# Altium integrated library Xilinx PLD XC9500.IntLib: 114 symbols (part 4 of 7)
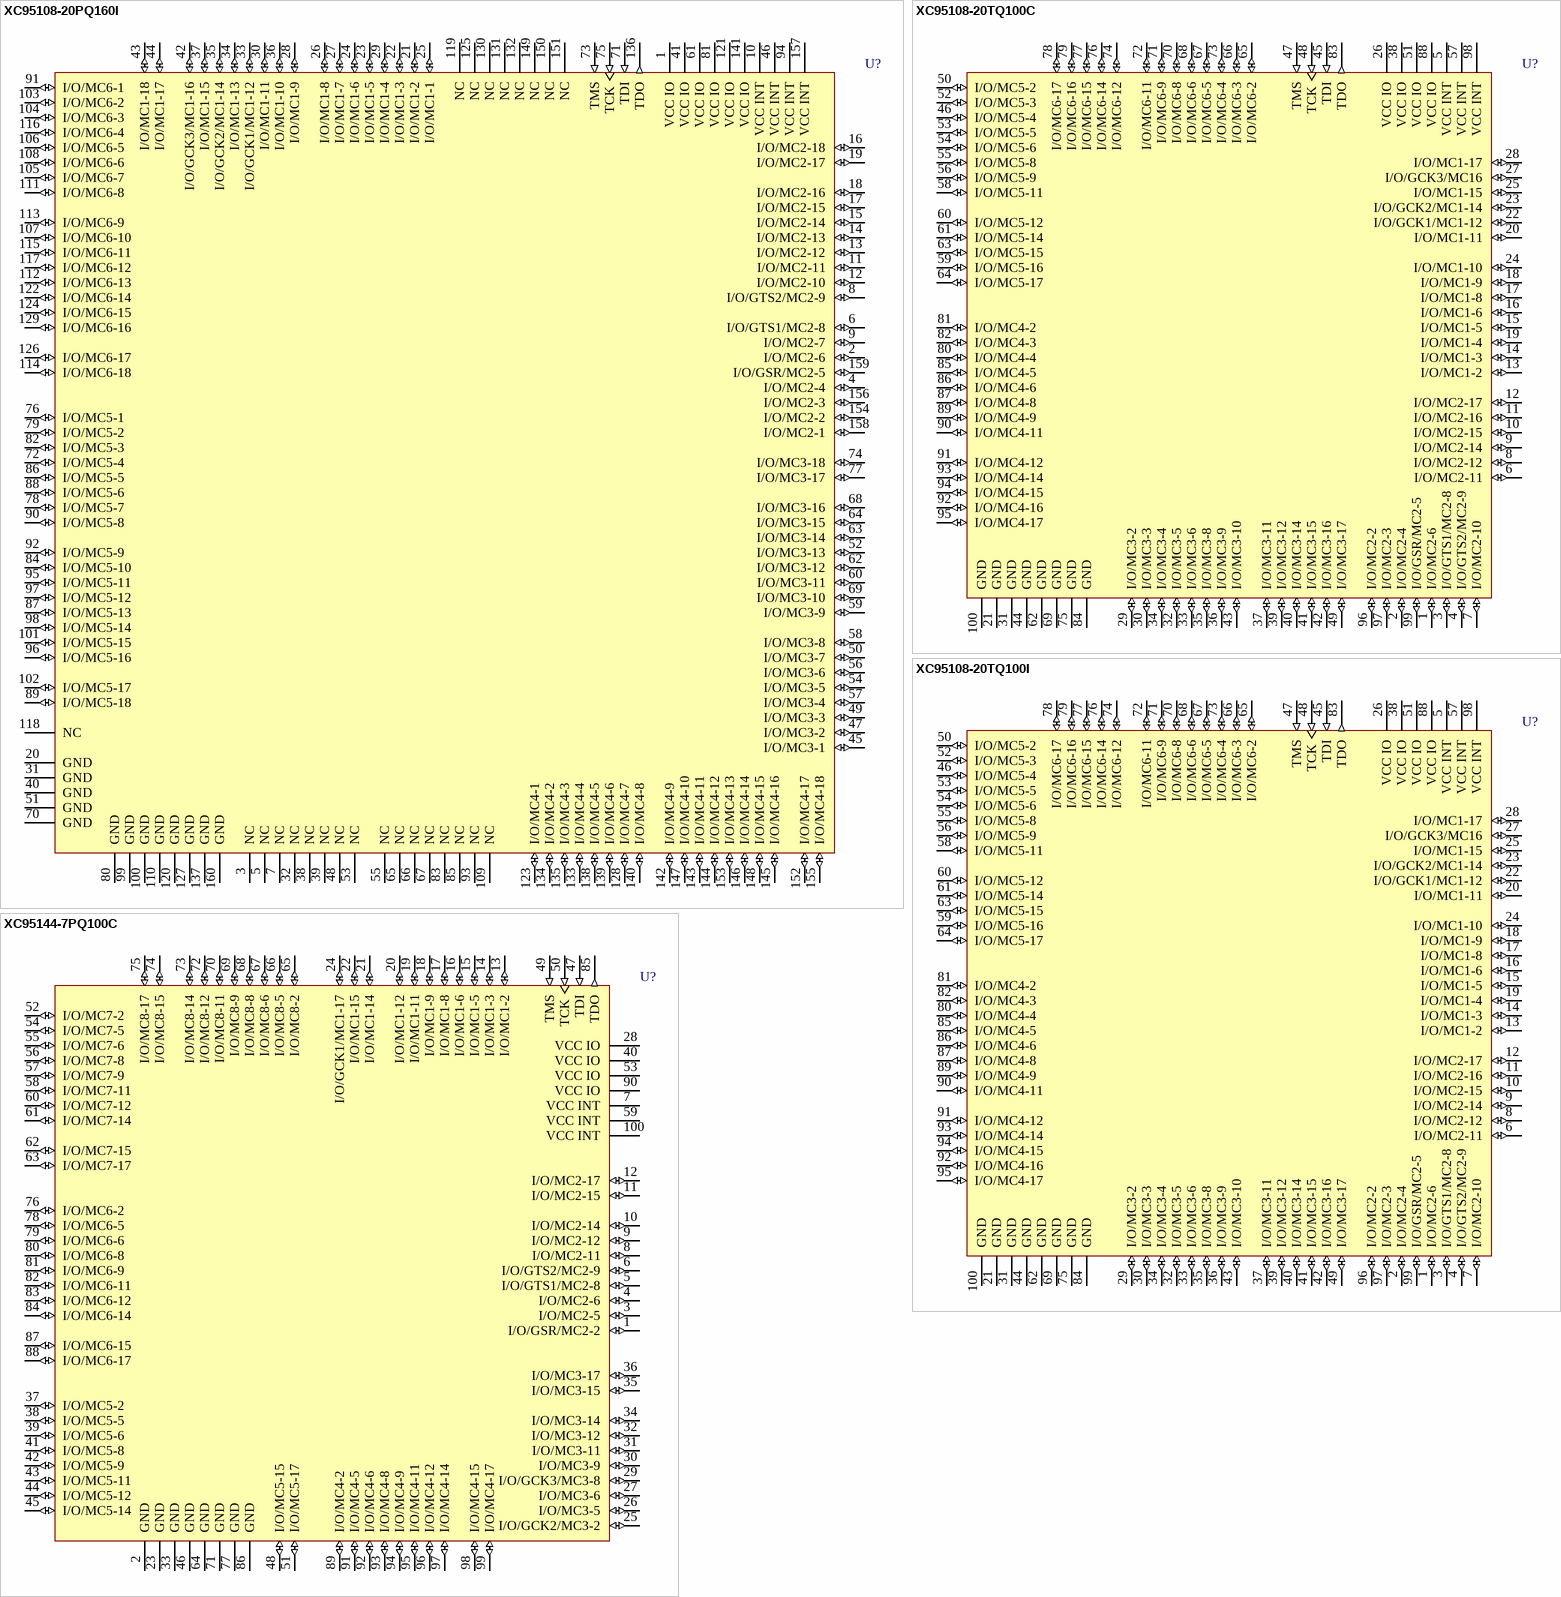
[diagram p53: symbols XC95108-20PQ160I to XC95144-7PQ100C]

## XC95108-20TQ100I
designator U?
XC9500, 5V CPLD with 108 Macrocells, 100-Pin TQFP, Industrial Grade; PackageDocument: ver1.1, Oct-2002; Published: 8-Jun-2000; LatestRevisionDate: 17-Jul-2002; LatestRevisionNote: Re-released for DXP Platform.; DatasheetDocument: ver4.3, Mar-2004; PackageReference: TQ100; Publisher: Altium Limited; Code_IPC: SQFP14X14-100
footprint TQ100 (100-Pin Thin Quad Flat Pack (TQ100))
3D model XC95108-TQ100 (100-Pin Thin Quad Flat Pack (TQ100))
signal-integrity model XC95108_TQ100 (XC9500)
pins: 1 I/O/MC2-6 (io), 2 I/O/MC2-4 (io), 3 I/O/GTS1/MC2-8 (io), 4 I/O/GTS2/MC2-9 (io), 5 VCC INT (power), 6 I/O/MC2-11 (io), 7 I/O/MC2-10 (io), 8 I/O/MC2-12 (io), 9 I/O/MC2-14 (io), 10 I/O/MC2-15 (io), 11 I/O/MC2-16 (io), 12 I/O/MC2-17 (io), 13 I/O/MC1-2 (io), 14 I/O/MC1-3 (io), 15 I/O/MC1-5 (io), 16 I/O/MC1-6 (io), 17 I/O/MC1-8 (io), 18 I/O/MC1-9 (io), 19 I/O/MC1-4 (io), 20 I/O/MC1-11 (io), 21 GND (power), 22 I/O/GCK1/MC1-12 (io), 23 I/O/GCK2/MC1-14 (io), 24 I/O/MC1-10 (io), 25 I/O/MC1-15 (io), 26 VCC IO (power), 27 I/O/GCK3/MC16 (io), 28 I/O/MC1-17 (io), 29 I/O/MC3-2 (io), 30 I/O/MC3-3 (io), 31 GND (power), 32 I/O/MC3-5 (io), 33 I/O/MC3-6 (io), 34 I/O/MC3-4 (io), 35 I/O/MC3-8 (io), 36 I/O/MC3-9 (io), 37 I/O/MC3-11 (io), 38 VCC IO (power), 39 I/O/MC3-12 (io), 40 I/O/MC3-14 (io), 41 I/O/MC3-15 (io), 42 I/O/MC3-16 (io), 43 I/O/MC3-10 (io), 44 GND (power), 45 TDI (in), 46 I/O/MC5-4 (io), 47 TMS (in), 48 TCK (in), 49 I/O/MC3-17 (io), 50 I/O/MC5-2 (io), 51 VCC IO (power), 52 I/O/MC5-3 (io), 53 I/O/MC5-5 (io), 54 I/O/MC5-6 (io), 55 I/O/MC5-8 (io), 56 I/O/MC5-9 (io), 57 VCC INT (power), 58 I/O/MC5-11 (io), 59 I/O/MC5-16 (io), 60 I/O/MC5-12 (io), 61 I/O/MC5-14 (io), 62 GND (power), 63 I/O/MC5-15 (io), 64 I/O/MC5-17 (io), 65 I/O/MC6-2 (io), 66 I/O/MC6-3 (io), 67 I/O/MC6-5 (io), 68 I/O/MC6-6 (io), 69 GND (power), 70 I/O/MC6-8 (io), 71 I/O/MC6-9 (io), 72 I/O/MC6-11 (io), 73 I/O/MC6-4 (io), 74 I/O/MC6-12 (io), 75 GND (power), 76 I/O/MC6-14 (io), 77 I/O/MC6-15 (io), 78 I/O/MC6-17 (io), 79 I/O/MC6-16 (io), 80 I/O/MC4-4 (io), 81 I/O/MC4-2 (io), 82 I/O/MC4-3 (io), 83 TDO (out), 84 GND (power), 85 I/O/MC4-5 (io), 86 I/O/MC4-6 (io), 87 I/O/MC4-8 (io), 88 VCC IO (power), 89 I/O/MC4-9 (io), 90 I/O/MC4-11 (io), 91 I/O/MC4-12 (io), 92 I/O/MC4-16 (io), 93 I/O/MC4-14 (io), 94 I/O/MC4-15 (io), 95 I/O/MC4-17 (io), 96 I/O/MC2-2 (io), 97 I/O/MC2-3 (io), 98 VCC INT (power), 99 I/O/GSR/MC2-5 (io), 100 GND (power)

## XC95144-7PQ100C
designator U?
XC9500, 5V CPLD with 144 Macrocells, 100-Pin PQFP, Commercial Grade; PackageDocument: ver1.2, Oct-2002; Published: 8-Jun-2000; LatestRevisionDate: 26-May-2004; LatestRevisionNote: SCH Symbol updated (GTS3 & GTS4 pin reference removed) to match Feb 2004 datasheet.; DatasheetDocument: ver5.3, Feb-2004; PackageReference: PQ100; Publisher: Altium Limited; Code_IPC: QFP-14X20-100
footprint PQ100 (100-Pin Plastic Quad Flat Pack (PQ100))
3D model XC95144-PQ100 (100-Pin Plastic Quad Flat Pack (PQ100))
signal-integrity model XC95144_PQ100 (XC9500)
pins: 1 I/O/GSR/MC2-2 (io), 2 GND (power), 3 I/O/MC2-5 (io), 4 I/O/MC2-6 (io), 5 I/O/GTS1/MC2-8 (io), 6 I/O/GTS2/MC2-9 (io), 7 VCC INT (power), 8 I/O/MC2-11 (io), 9 I/O/MC2-12 (io), 10 I/O/MC2-14 (io), 11 I/O/MC2-15 (io), 12 I/O/MC2-17 (io), 13 I/O/MC1-2 (io), 14 I/O/MC1-3 (io), 15 I/O/MC1-5 (io), 16 I/O/MC1-6 (io), 17 I/O/MC1-8 (io), 18 I/O/MC1-9 (io), 19 I/O/MC1-11 (io), 20 I/O/MC1-12 (io), 21 I/O/MC1-14 (io), 22 I/O/MC1-15 (io), 23 GND (power), 24 I/O/GCK1/MC1-17 (io), 25 I/O/GCK2/MC3-2 (io), 26 I/O/MC3-5 (io), 27 I/O/MC3-6 (io), 28 VCC IO (power), 29 I/O/GCK3/MC3-8 (io), 30 I/O/MC3-9 (io), 31 I/O/MC3-11 (io), 32 I/O/MC3-12 (io), 33 GND (power), 34 I/O/MC3-14 (io), 35 I/O/MC3-15 (io), 36 I/O/MC3-17 (io), 37 I/O/MC5-2 (io), 38 I/O/MC5-5 (io), 39 I/O/MC5-6 (io), 40 VCC IO (power), 41 I/O/MC5-8 (io), 42 I/O/MC5-9 (io), 43 I/O/MC5-11 (io), 44 I/O/MC5-12 (io), 45 I/O/MC5-14 (io), 46 GND (power), 47 TDI (in), 48 I/O/MC5-15 (io), 49 TMS (in), 50 TCK (in), 51 I/O/MC5-17 (io), 52 I/O/MC7-2 (io), 53 VCC IO (power), 54 I/O/MC7-5 (io), 55 I/O/MC7-6 (io), 56 I/O/MC7-8 (io), 57 I/O/MC7-9 (io), 58 I/O/MC7-11 (io), 59 VCC INT (power), 60 I/O/MC7-12 (io), 61 I/O/MC7-14 (io), 62 I/O/MC7-15 (io), 63 I/O/MC7-17 (io), 64 GND (power), 65 I/O/MC8-2 (io), 66 I/O/MC8-5 (io), 67 I/O/MC8-6 (io), 68 I/O/MC8-8 (io), 69 I/O/MC8-9 (io), 70 I/O/MC8-11 (io), 71 GND (power), 72 I/O/MC8-12 (io), 73 I/O/MC8-14 (io), 74 I/O/MC8-15 (io), 75 I/O/MC8-17 (io), 76 I/O/MC6-2 (io), 77 GND (power), 78 I/O/MC6-5 (io), 79 I/O/MC6-6 (io), 80 I/O/MC6-8 (io), 81 I/O/MC6-9 (io), 82 I/O/MC6-11 (io), 83 I/O/MC6-12 (io), 84 I/O/MC6-14 (io), 85 TDO (out), 86 GND (power), 87 I/O/MC6-15 (io), 88 I/O/MC6-17 (io), 89 I/O/MC4-2 (io), 90 VCC IO (power), 91 I/O/MC4-5 (io), 92 I/O/MC4-6 (io), 93 I/O/MC4-8 (io), 94 I/O/MC4-9 (io), 95 I/O/MC4-11 (io), 96 I/O/MC4-12 (io), 97 I/O/MC4-14 (io), 98 I/O/MC4-15 (io), 99 I/O/MC4-17 (io), 100 VCC INT (power)

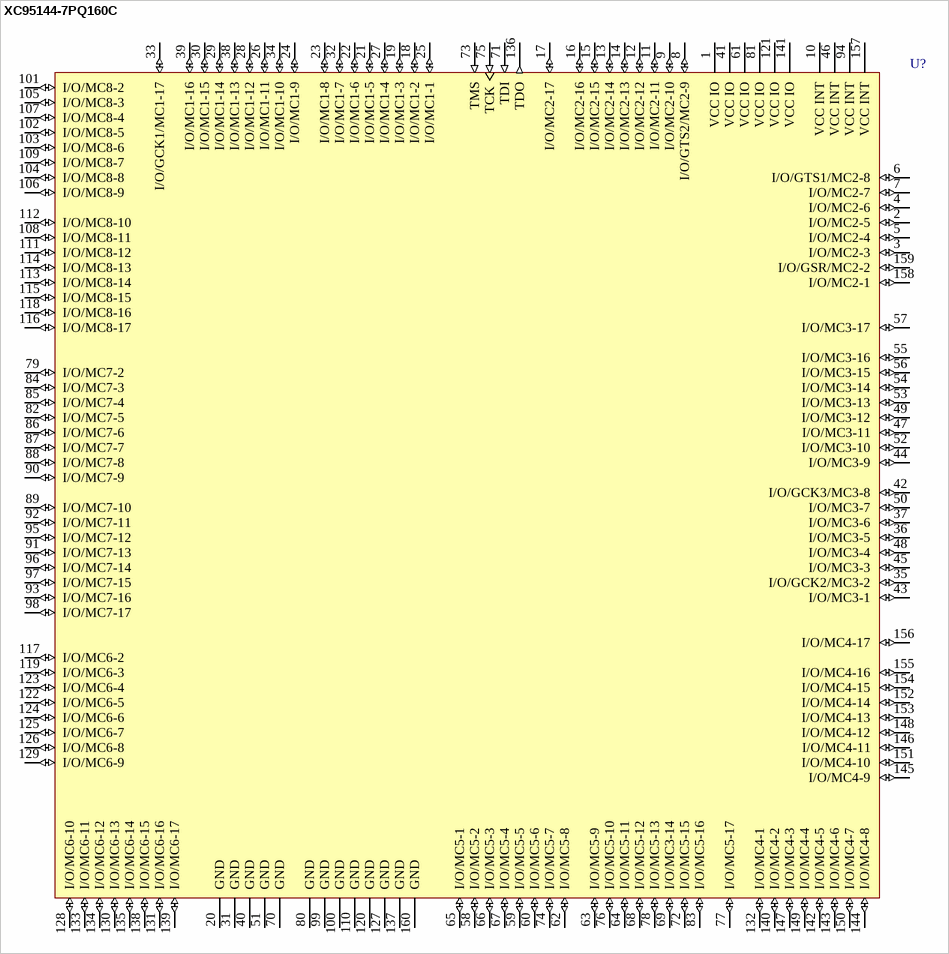
[diagram p15: symbol XC95144-7PQ160C]

## XC95144-7PQ160C
designator U?
XC9500, 5V CPLD with 144 Macrocells, 160-Pin PQFP, Commercial Grade; PackageDocument: ver1.1, Oct-2002; Published: 8-Jun-2000; LatestRevisionDate: 26-May-2004; LatestRevisionNote: SCH Symbol updated (GTS3 & GTS4 pin reference removed) to match Feb 2004 datasheet.; DatasheetDocument: ver5.3, Feb-2004; PackageReference: PQ160; Publisher: Altium Limited; Code_JEDEC: MS-022-DD1
footprint PQ160 (160-Pin Plastic Quad Flat Pack (PQ160))
3D model XC95144-PQ160 (160-Pin Plastic Quad Flat Pack (PQ160))
signal-integrity model XC95144_PQ160 (XC9500)
pins: 1 VCC IO (power), 2 I/O/MC2-5 (io), 3 I/O/MC2-3 (io), 4 I/O/MC2-6 (io), 5 I/O/MC2-4 (io), 6 I/O/GTS1/MC2-8 (io), 7 I/O/MC2-7 (io), 8 I/O/GTS2/MC2-9 (io), 9 I/O/MC2-10 (io), 10 VCC INT (power), 11 I/O/MC2-11 (io), 12 I/O/MC2-12 (io), 13 I/O/MC2-14 (io), 14 I/O/MC2-13 (io), 15 I/O/MC2-15 (io), 16 I/O/MC2-16 (io), 17 I/O/MC2-17 (io), 18 I/O/MC1-2 (io), 19 I/O/MC1-3 (io), 20 GND (power), 21 I/O/MC1-5 (io), 22 I/O/MC1-6 (io), 23 I/O/MC1-8 (io), 24 I/O/MC1-9 (io), 25 I/O/MC1-1 (io), 26 I/O/MC1-11 (io), 27 I/O/MC1-4 (io), 28 I/O/MC1-12 (io), 29 I/O/MC1-14 (io), 30 I/O/MC1-15 (io), 31 GND (power), 32 I/O/MC1-7 (io), 33 I/O/GCK1/MC1-17 (io), 34 I/O/MC1-10 (io), 35 I/O/GCK2/MC3-2 (io), 36 I/O/MC3-5 (io), 37 I/O/MC3-6 (io), 38 I/O/MC1-13 (io), 39 I/O/MC1-16 (io), 40 GND (power), 41 VCC IO (power), 42 I/O/GCK3/MC3-8 (io), 43 I/O/MC3-1 (io), 44 I/O/MC3-9 (io), 45 I/O/MC3-3 (io), 46 VCC INT (power), 47 I/O/MC3-11 (io), 48 I/O/MC3-4 (io), 49 I/O/MC3-12 (io), 50 I/O/MC3-7 (io), 51 GND (power), 52 I/O/MC3-10 (io), 53 I/O/MC3-13 (io), 54 I/O/MC3-14 (io), 55 I/O/MC3-16 (io), 56 I/O/MC3-15 (io), 57 I/O/MC3-17 (io), 58 I/O/MC5-2 (io), 59 I/O/MC5-5 (io), 60 I/O/MC5-6 (io), 61 VCC IO (power), 62 I/O/MC5-8 (io), 63 I/O/MC5-9 (io), 64 I/O/MC5-11 (io), 65 I/O/MC5-1 (io), 66 I/O/MC5-3 (io), 67 I/O/MC5-4 (io), 68 I/O/MC5-12 (io), 69 I/O/MC3-14 (io), 70 GND (power), 71 TDI (in), 72 I/O/MC5-15 (io), 73 TMS (in), 74 I/O/MC5-7 (io), 75 TCK (in), 76 I/O/MC5-10 (io), 77 I/O/MC5-17 (io), 78 I/O/MC5-13 (io), 79 I/O/MC7-2 (io), 80 GND (power), 81 VCC IO (power), 82 I/O/MC7-5 (io), 83 I/O/MC5-16 (io), 84 I/O/MC7-3 (io), 85 I/O/MC7-4 (io), 86 I/O/MC7-6 (io), 87 I/O/MC7-7 (io), 88 I/O/MC7-8 (io), 89 I/O/MC7-10 (io), 90 I/O/MC7-9 (io), 91 I/O/MC7-13 (io), 92 I/O/MC7-11 (io), 93 I/O/MC7-16 (io), 94 VCC INT (power), 95 I/O/MC7-12 (io), 96 I/O/MC7-14 (io), 97 I/O/MC7-15 (io), 98 I/O/MC7-17 (io), 99 GND (power), 100 GND (power), 101 I/O/MC8-2 (io), 102 I/O/MC8-5 (io), 103 I/O/MC8-6 (io), 104 I/O/MC8-8 (io), 105 I/O/MC8-3 (io), 106 I/O/MC8-9 (io), 107 I/O/MC8-4 (io), 108 I/O/MC8-11 (io), 109 I/O/MC8-7 (io), 110 GND (power), 111 I/O/MC8-12 (io), 112 I/O/MC8-10 (io), 113 I/O/MC8-14 (io), 114 I/O/MC8-13 (io), 115 I/O/MC8-15 (io), 116 I/O/MC8-17 (io), 117 I/O/MC6-2 (io), 118 I/O/MC8-16 (io), 119 I/O/MC6-3 (io), 120 GND (power), 121 VCC IO (power), 122 I/O/MC6-5 (io), 123 I/O/MC6-4 (io), 124 I/O/MC6-6 (io), 125 I/O/MC6-7 (io), 126 I/O/MC6-8 (io), 127 GND (power), 128 I/O/MC6-10 (io), 129 I/O/MC6-9 (io), 130 I/O/MC6-13 (io), 131 I/O/MC6-16 (io), 132 I/O/MC4-1 (io), 133 I/O/MC6-11 (io), 134 I/O/MC6-12 (io), 135 I/O/MC6-14 (io), 136 TDO (out), 137 GND (power), 138 I/O/MC6-15 (io), 139 I/O/MC6-17 (io), 140 I/O/MC4-2 (io), 141 VCC IO (power), 142 I/O/MC4-5 (io), 143 I/O/MC4-6 (io), 144 I/O/MC4-8 (io), 145 I/O/MC4-9 (io), 146 I/O/MC4-11 (io), 147 I/O/MC4-3 (io), 148 I/O/MC4-12 (io), 149 I/O/MC4-4 (io), 150 I/O/MC4-7 (io), 151 I/O/MC4-10 (io), 152 I/O/MC4-14 (io), 153 I/O/MC4-13 (io), 154 I/O/MC4-15 (io), 155 I/O/MC4-16 (io), 156 I/O/MC4-17 (io), 157 VCC INT (power), 158 I/O/MC2-1 (io), 159 I/O/GSR/MC2-2 (io), 160 GND (power)

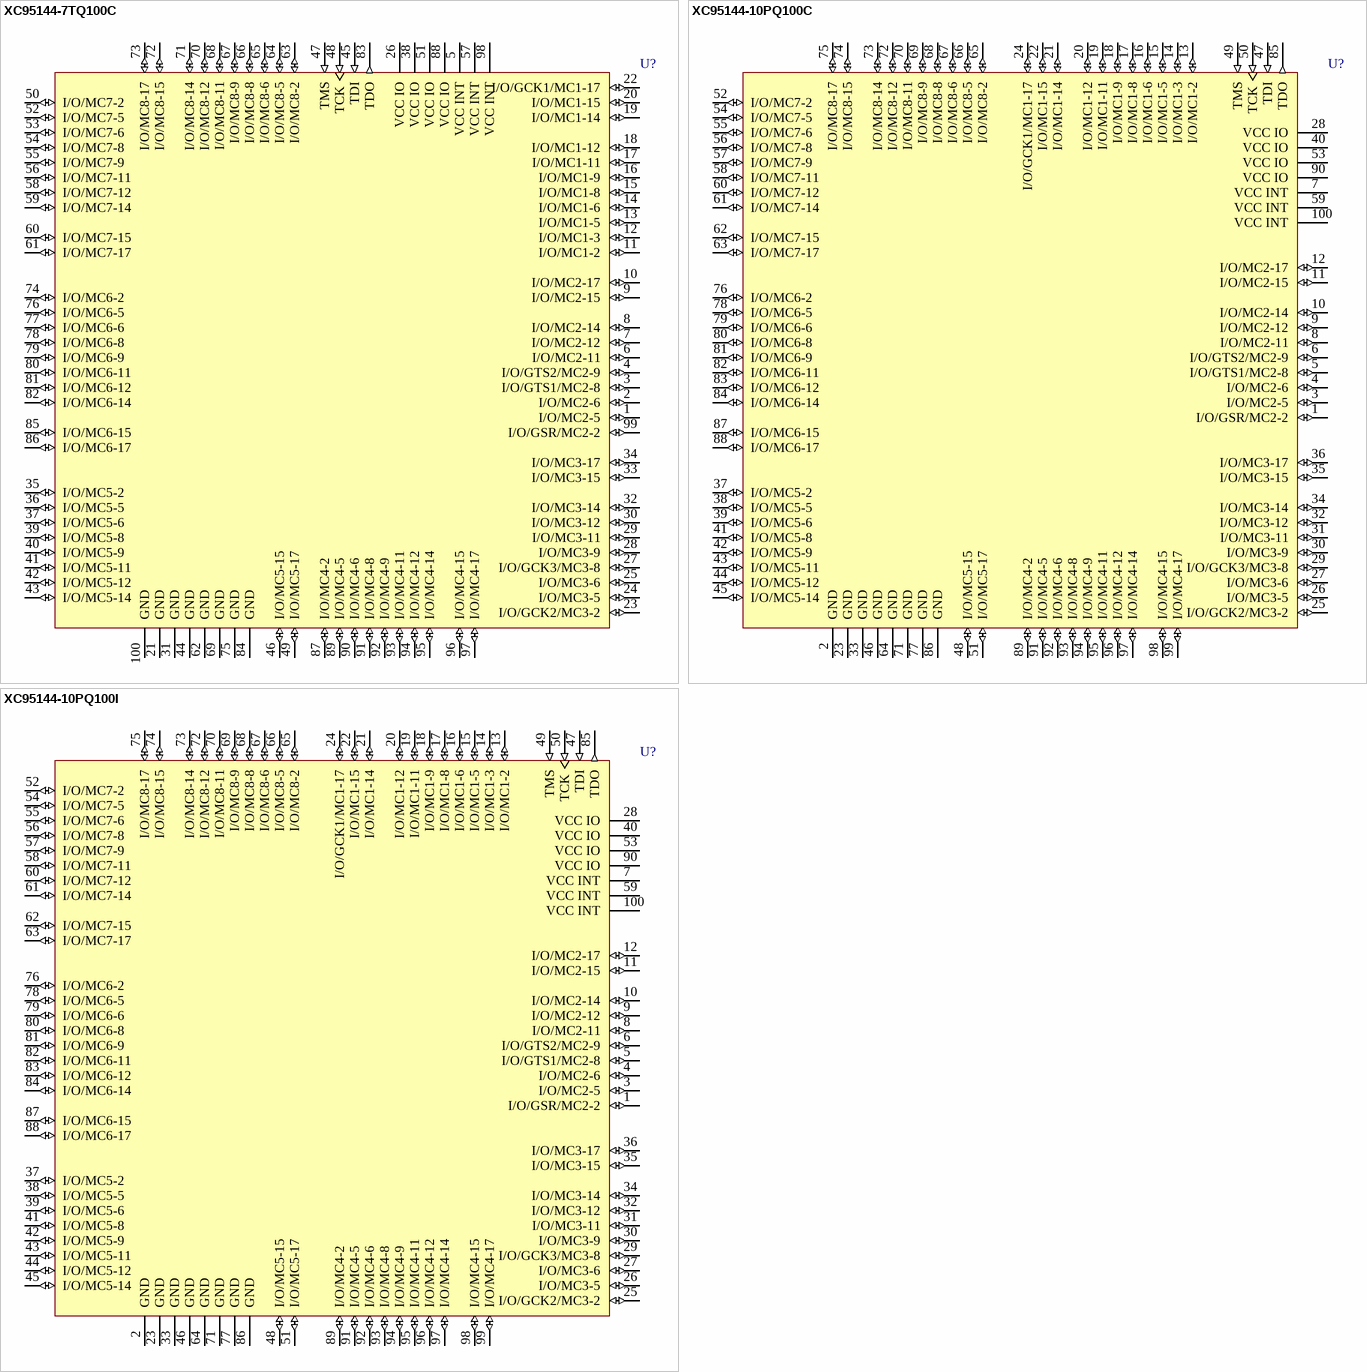
[diagram p16: symbols XC95144-7TQ100C to XC95144-10PQ100I]

## XC95144-7TQ100C
designator U?
XC9500, 5V CPLD with 144 Macrocells, 100-Pin TQFP, Commercial Grade; PackageDocument: ver1.1, Oct-2002; Published: 8-Jun-2000; LatestRevisionDate: 26-May-2004; LatestRevisionNote: SCH Symbol updated (GTS3 & GTS4 pin reference removed) to match Feb 2004 datasheet.; DatasheetDocument: ver5.3, Feb-2004; PackageReference: TQ100; Publisher: Altium Limited; Code_IPC: SQFP14X14-100
footprint TQ100 (100-Pin Thin Quad Flat Pack (TQ100))
3D model XC95144-TQ100 (100-Pin Thin Quad Flat Pack (TQ100))
signal-integrity model XC95144_TQ100 (XC9500)
pins: 1 I/O/MC2-5 (io), 2 I/O/MC2-6 (io), 3 I/O/GTS1/MC2-8 (io), 4 I/O/GTS2/MC2-9 (io), 5 VCC INT (power), 6 I/O/MC2-11 (io), 7 I/O/MC2-12 (io), 8 I/O/MC2-14 (io), 9 I/O/MC2-15 (io), 10 I/O/MC2-17 (io), 11 I/O/MC1-2 (io), 12 I/O/MC1-3 (io), 13 I/O/MC1-5 (io), 14 I/O/MC1-6 (io), 15 I/O/MC1-8 (io), 16 I/O/MC1-9 (io), 17 I/O/MC1-11 (io), 18 I/O/MC1-12 (io), 19 I/O/MC1-14 (io), 20 I/O/MC1-15 (io), 21 GND (power), 22 I/O/GCK1/MC1-17 (io), 23 I/O/GCK2/MC3-2 (io), 24 I/O/MC3-5 (io), 25 I/O/MC3-6 (io), 26 VCC IO (power), 27 I/O/GCK3/MC3-8 (io), 28 I/O/MC3-9 (io), 29 I/O/MC3-11 (io), 30 I/O/MC3-12 (io), 31 GND (power), 32 I/O/MC3-14 (io), 33 I/O/MC3-15 (io), 34 I/O/MC3-17 (io), 35 I/O/MC5-2 (io), 36 I/O/MC5-5 (io), 37 I/O/MC5-6 (io), 38 VCC IO (power), 39 I/O/MC5-8 (io), 40 I/O/MC5-9 (io), 41 I/O/MC5-11 (io), 42 I/O/MC5-12 (io), 43 I/O/MC5-14 (io), 44 GND (power), 45 TDI (in), 46 I/O/MC5-15 (io), 47 TMS (in), 48 TCK (in), 49 I/O/MC5-17 (io), 50 I/O/MC7-2 (io), 51 VCC IO (power), 52 I/O/MC7-5 (io), 53 I/O/MC7-6 (io), 54 I/O/MC7-8 (io), 55 I/O/MC7-9 (io), 56 I/O/MC7-11 (io), 57 VCC INT (power), 58 I/O/MC7-12 (io), 59 I/O/MC7-14 (io), 60 I/O/MC7-15 (io), 61 I/O/MC7-17 (io), 62 GND (power), 63 I/O/MC8-2 (io), 64 I/O/MC8-5 (io), 65 I/O/MC8-6 (io), 66 I/O/MC8-8 (io), 67 I/O/MC8-9 (io), 68 I/O/MC8-11 (io), 69 GND (power), 70 I/O/MC8-12 (io), 71 I/O/MC8-14 (io), 72 I/O/MC8-15 (io), 73 I/O/MC8-17 (io), 74 I/O/MC6-2 (io), 75 GND (power), 76 I/O/MC6-5 (io), 77 I/O/MC6-6 (io), 78 I/O/MC6-8 (io), 79 I/O/MC6-9 (io), 80 I/O/MC6-11 (io), 81 I/O/MC6-12 (io), 82 I/O/MC6-14 (io), 83 TDO (out), 84 GND (power), 85 I/O/MC6-15 (io), 86 I/O/MC6-17 (io), 87 I/O/MC4-2 (io), 88 VCC IO (power), 89 I/O/MC4-5 (io), 90 I/O/MC4-6 (io), 91 I/O/MC4-8 (io), 92 I/O/MC4-9 (io), 93 I/O/MC4-11 (io), 94 I/O/MC4-12 (io), 95 I/O/MC4-14 (io), 96 I/O/MC4-15 (io), 97 I/O/MC4-17 (io), 98 VCC INT (power), 99 I/O/GSR/MC2-2 (io), 100 GND (power)

## XC95144-10PQ100C
designator U?
XC9500, 5V CPLD with 144 Macrocells, 100-Pin PQFP, Commercial Grade; PackageDocument: ver1.2, Oct-2002; Published: 8-Jun-2000; LatestRevisionDate: 26-May-2004; LatestRevisionNote: SCH Symbol updated (GTS3 & GTS4 pin reference removed) to match Feb 2004 datasheet.; DatasheetDocument: ver5.3, Feb-2004; PackageReference: PQ100; Publisher: Altium Limited; Code_IPC: QFP-14X20-100
footprint PQ100 (100-Pin Plastic Quad Flat Pack (PQ100))
3D model XC95144-PQ100 (100-Pin Plastic Quad Flat Pack (PQ100))
signal-integrity model XC95144_PQ100 (XC9500)
pins: 1 I/O/GSR/MC2-2 (io), 2 GND (power), 3 I/O/MC2-5 (io), 4 I/O/MC2-6 (io), 5 I/O/GTS1/MC2-8 (io), 6 I/O/GTS2/MC2-9 (io), 7 VCC INT (power), 8 I/O/MC2-11 (io), 9 I/O/MC2-12 (io), 10 I/O/MC2-14 (io), 11 I/O/MC2-15 (io), 12 I/O/MC2-17 (io), 13 I/O/MC1-2 (io), 14 I/O/MC1-3 (io), 15 I/O/MC1-5 (io), 16 I/O/MC1-6 (io), 17 I/O/MC1-8 (io), 18 I/O/MC1-9 (io), 19 I/O/MC1-11 (io), 20 I/O/MC1-12 (io), 21 I/O/MC1-14 (io), 22 I/O/MC1-15 (io), 23 GND (power), 24 I/O/GCK1/MC1-17 (io), 25 I/O/GCK2/MC3-2 (io), 26 I/O/MC3-5 (io), 27 I/O/MC3-6 (io), 28 VCC IO (power), 29 I/O/GCK3/MC3-8 (io), 30 I/O/MC3-9 (io), 31 I/O/MC3-11 (io), 32 I/O/MC3-12 (io), 33 GND (power), 34 I/O/MC3-14 (io), 35 I/O/MC3-15 (io), 36 I/O/MC3-17 (io), 37 I/O/MC5-2 (io), 38 I/O/MC5-5 (io), 39 I/O/MC5-6 (io), 40 VCC IO (power), 41 I/O/MC5-8 (io), 42 I/O/MC5-9 (io), 43 I/O/MC5-11 (io), 44 I/O/MC5-12 (io), 45 I/O/MC5-14 (io), 46 GND (power), 47 TDI (in), 48 I/O/MC5-15 (io), 49 TMS (in), 50 TCK (in), 51 I/O/MC5-17 (io), 52 I/O/MC7-2 (io), 53 VCC IO (power), 54 I/O/MC7-5 (io), 55 I/O/MC7-6 (io), 56 I/O/MC7-8 (io), 57 I/O/MC7-9 (io), 58 I/O/MC7-11 (io), 59 VCC INT (power), 60 I/O/MC7-12 (io), 61 I/O/MC7-14 (io), 62 I/O/MC7-15 (io), 63 I/O/MC7-17 (io), 64 GND (power), 65 I/O/MC8-2 (io), 66 I/O/MC8-5 (io), 67 I/O/MC8-6 (io), 68 I/O/MC8-8 (io), 69 I/O/MC8-9 (io), 70 I/O/MC8-11 (io), 71 GND (power), 72 I/O/MC8-12 (io), 73 I/O/MC8-14 (io), 74 I/O/MC8-15 (io), 75 I/O/MC8-17 (io), 76 I/O/MC6-2 (io), 77 GND (power), 78 I/O/MC6-5 (io), 79 I/O/MC6-6 (io), 80 I/O/MC6-8 (io), 81 I/O/MC6-9 (io), 82 I/O/MC6-11 (io), 83 I/O/MC6-12 (io), 84 I/O/MC6-14 (io), 85 TDO (out), 86 GND (power), 87 I/O/MC6-15 (io), 88 I/O/MC6-17 (io), 89 I/O/MC4-2 (io), 90 VCC IO (power), 91 I/O/MC4-5 (io), 92 I/O/MC4-6 (io), 93 I/O/MC4-8 (io), 94 I/O/MC4-9 (io), 95 I/O/MC4-11 (io), 96 I/O/MC4-12 (io), 97 I/O/MC4-14 (io), 98 I/O/MC4-15 (io), 99 I/O/MC4-17 (io), 100 VCC INT (power)

## XC95144-10PQ100I
designator U?
XC9500, 5V CPLD with 144 Macrocells, 100-Pin PQFP, Industrial Grade; PackageDocument: ver1.2, Oct-2002; Published: 8-Jun-2000; LatestRevisionDate: 26-May-2004; LatestRevisionNote: SCH Symbol updated (GTS3 & GTS4 pin reference removed) to match Feb 2004 datasheet.; DatasheetDocument: ver5.3, Feb-2004; PackageReference: PQ100; Publisher: Altium Limited; Code_IPC: QFP-14X20-100
footprint PQ100 (100-Pin Plastic Quad Flat Pack (PQ100))
3D model XC95144-PQ100 (100-Pin Plastic Quad Flat Pack (PQ100))
signal-integrity model XC95144_PQ100 (XC9500)
pins: 1 I/O/GSR/MC2-2 (io), 2 GND (power), 3 I/O/MC2-5 (io), 4 I/O/MC2-6 (io), 5 I/O/GTS1/MC2-8 (io), 6 I/O/GTS2/MC2-9 (io), 7 VCC INT (power), 8 I/O/MC2-11 (io), 9 I/O/MC2-12 (io), 10 I/O/MC2-14 (io), 11 I/O/MC2-15 (io), 12 I/O/MC2-17 (io), 13 I/O/MC1-2 (io), 14 I/O/MC1-3 (io), 15 I/O/MC1-5 (io), 16 I/O/MC1-6 (io), 17 I/O/MC1-8 (io), 18 I/O/MC1-9 (io), 19 I/O/MC1-11 (io), 20 I/O/MC1-12 (io), 21 I/O/MC1-14 (io), 22 I/O/MC1-15 (io), 23 GND (power), 24 I/O/GCK1/MC1-17 (io), 25 I/O/GCK2/MC3-2 (io), 26 I/O/MC3-5 (io), 27 I/O/MC3-6 (io), 28 VCC IO (power), 29 I/O/GCK3/MC3-8 (io), 30 I/O/MC3-9 (io), 31 I/O/MC3-11 (io), 32 I/O/MC3-12 (io), 33 GND (power), 34 I/O/MC3-14 (io), 35 I/O/MC3-15 (io), 36 I/O/MC3-17 (io), 37 I/O/MC5-2 (io), 38 I/O/MC5-5 (io), 39 I/O/MC5-6 (io), 40 VCC IO (power), 41 I/O/MC5-8 (io), 42 I/O/MC5-9 (io), 43 I/O/MC5-11 (io), 44 I/O/MC5-12 (io), 45 I/O/MC5-14 (io), 46 GND (power), 47 TDI (in), 48 I/O/MC5-15 (io), 49 TMS (in), 50 TCK (in), 51 I/O/MC5-17 (io), 52 I/O/MC7-2 (io), 53 VCC IO (power), 54 I/O/MC7-5 (io), 55 I/O/MC7-6 (io), 56 I/O/MC7-8 (io), 57 I/O/MC7-9 (io), 58 I/O/MC7-11 (io), 59 VCC INT (power), 60 I/O/MC7-12 (io), 61 I/O/MC7-14 (io), 62 I/O/MC7-15 (io), 63 I/O/MC7-17 (io), 64 GND (power), 65 I/O/MC8-2 (io), 66 I/O/MC8-5 (io), 67 I/O/MC8-6 (io), 68 I/O/MC8-8 (io), 69 I/O/MC8-9 (io), 70 I/O/MC8-11 (io), 71 GND (power), 72 I/O/MC8-12 (io), 73 I/O/MC8-14 (io), 74 I/O/MC8-15 (io), 75 I/O/MC8-17 (io), 76 I/O/MC6-2 (io), 77 GND (power), 78 I/O/MC6-5 (io), 79 I/O/MC6-6 (io), 80 I/O/MC6-8 (io), 81 I/O/MC6-9 (io), 82 I/O/MC6-11 (io), 83 I/O/MC6-12 (io), 84 I/O/MC6-14 (io), 85 TDO (out), 86 GND (power), 87 I/O/MC6-15 (io), 88 I/O/MC6-17 (io), 89 I/O/MC4-2 (io), 90 VCC IO (power), 91 I/O/MC4-5 (io), 92 I/O/MC4-6 (io), 93 I/O/MC4-8 (io), 94 I/O/MC4-9 (io), 95 I/O/MC4-11 (io), 96 I/O/MC4-12 (io), 97 I/O/MC4-14 (io), 98 I/O/MC4-15 (io), 99 I/O/MC4-17 (io), 100 VCC INT (power)

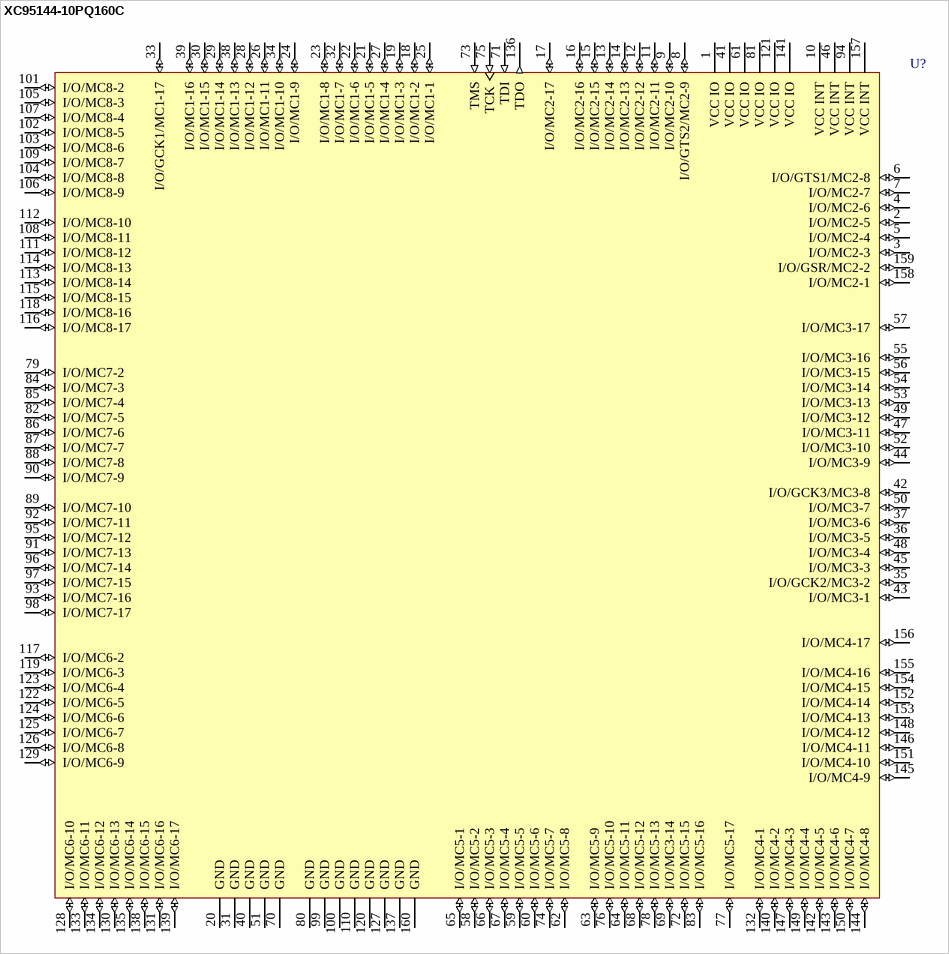
[diagram p17: symbol XC95144-10PQ160C]

## XC95144-10PQ160C
designator U?
XC9500, 5V CPLD with 144 Macrocells, 160-Pin PQFP, Commercial Grade; PackageDocument: ver1.1, Oct-2002; Published: 8-Jun-2000; LatestRevisionDate: 26-May-2004; LatestRevisionNote: SCH Symbol updated (GTS3 & GTS4 pin reference removed) to match Feb 2004 datasheet.; DatasheetDocument: ver5.3, Feb-2004; PackageReference: PQ160; Publisher: Altium Limited; Code_JEDEC: MS-022-DD1
footprint PQ160 (160-Pin Plastic Quad Flat Pack (PQ160))
3D model XC95144-PQ160 (160-Pin Plastic Quad Flat Pack (PQ160))
signal-integrity model XC95144_PQ160 (XC9500)
pins: 1 VCC IO (power), 2 I/O/MC2-5 (io), 3 I/O/MC2-3 (io), 4 I/O/MC2-6 (io), 5 I/O/MC2-4 (io), 6 I/O/GTS1/MC2-8 (io), 7 I/O/MC2-7 (io), 8 I/O/GTS2/MC2-9 (io), 9 I/O/MC2-10 (io), 10 VCC INT (power), 11 I/O/MC2-11 (io), 12 I/O/MC2-12 (io), 13 I/O/MC2-14 (io), 14 I/O/MC2-13 (io), 15 I/O/MC2-15 (io), 16 I/O/MC2-16 (io), 17 I/O/MC2-17 (io), 18 I/O/MC1-2 (io), 19 I/O/MC1-3 (io), 20 GND (power), 21 I/O/MC1-5 (io), 22 I/O/MC1-6 (io), 23 I/O/MC1-8 (io), 24 I/O/MC1-9 (io), 25 I/O/MC1-1 (io), 26 I/O/MC1-11 (io), 27 I/O/MC1-4 (io), 28 I/O/MC1-12 (io), 29 I/O/MC1-14 (io), 30 I/O/MC1-15 (io), 31 GND (power), 32 I/O/MC1-7 (io), 33 I/O/GCK1/MC1-17 (io), 34 I/O/MC1-10 (io), 35 I/O/GCK2/MC3-2 (io), 36 I/O/MC3-5 (io), 37 I/O/MC3-6 (io), 38 I/O/MC1-13 (io), 39 I/O/MC1-16 (io), 40 GND (power), 41 VCC IO (power), 42 I/O/GCK3/MC3-8 (io), 43 I/O/MC3-1 (io), 44 I/O/MC3-9 (io), 45 I/O/MC3-3 (io), 46 VCC INT (power), 47 I/O/MC3-11 (io), 48 I/O/MC3-4 (io), 49 I/O/MC3-12 (io), 50 I/O/MC3-7 (io), 51 GND (power), 52 I/O/MC3-10 (io), 53 I/O/MC3-13 (io), 54 I/O/MC3-14 (io), 55 I/O/MC3-16 (io), 56 I/O/MC3-15 (io), 57 I/O/MC3-17 (io), 58 I/O/MC5-2 (io), 59 I/O/MC5-5 (io), 60 I/O/MC5-6 (io), 61 VCC IO (power), 62 I/O/MC5-8 (io), 63 I/O/MC5-9 (io), 64 I/O/MC5-11 (io), 65 I/O/MC5-1 (io), 66 I/O/MC5-3 (io), 67 I/O/MC5-4 (io), 68 I/O/MC5-12 (io), 69 I/O/MC3-14 (io), 70 GND (power), 71 TDI (in), 72 I/O/MC5-15 (io), 73 TMS (in), 74 I/O/MC5-7 (io), 75 TCK (in), 76 I/O/MC5-10 (io), 77 I/O/MC5-17 (io), 78 I/O/MC5-13 (io), 79 I/O/MC7-2 (io), 80 GND (power), 81 VCC IO (power), 82 I/O/MC7-5 (io), 83 I/O/MC5-16 (io), 84 I/O/MC7-3 (io), 85 I/O/MC7-4 (io), 86 I/O/MC7-6 (io), 87 I/O/MC7-7 (io), 88 I/O/MC7-8 (io), 89 I/O/MC7-10 (io), 90 I/O/MC7-9 (io), 91 I/O/MC7-13 (io), 92 I/O/MC7-11 (io), 93 I/O/MC7-16 (io), 94 VCC INT (power), 95 I/O/MC7-12 (io), 96 I/O/MC7-14 (io), 97 I/O/MC7-15 (io), 98 I/O/MC7-17 (io), 99 GND (power), 100 GND (power), 101 I/O/MC8-2 (io), 102 I/O/MC8-5 (io), 103 I/O/MC8-6 (io), 104 I/O/MC8-8 (io), 105 I/O/MC8-3 (io), 106 I/O/MC8-9 (io), 107 I/O/MC8-4 (io), 108 I/O/MC8-11 (io), 109 I/O/MC8-7 (io), 110 GND (power), 111 I/O/MC8-12 (io), 112 I/O/MC8-10 (io), 113 I/O/MC8-14 (io), 114 I/O/MC8-13 (io), 115 I/O/MC8-15 (io), 116 I/O/MC8-17 (io), 117 I/O/MC6-2 (io), 118 I/O/MC8-16 (io), 119 I/O/MC6-3 (io), 120 GND (power), 121 VCC IO (power), 122 I/O/MC6-5 (io), 123 I/O/MC6-4 (io), 124 I/O/MC6-6 (io), 125 I/O/MC6-7 (io), 126 I/O/MC6-8 (io), 127 GND (power), 128 I/O/MC6-10 (io), 129 I/O/MC6-9 (io), 130 I/O/MC6-13 (io), 131 I/O/MC6-16 (io), 132 I/O/MC4-1 (io), 133 I/O/MC6-11 (io), 134 I/O/MC6-12 (io), 135 I/O/MC6-14 (io), 136 TDO (out), 137 GND (power), 138 I/O/MC6-15 (io), 139 I/O/MC6-17 (io), 140 I/O/MC4-2 (io), 141 VCC IO (power), 142 I/O/MC4-5 (io), 143 I/O/MC4-6 (io), 144 I/O/MC4-8 (io), 145 I/O/MC4-9 (io), 146 I/O/MC4-11 (io), 147 I/O/MC4-3 (io), 148 I/O/MC4-12 (io), 149 I/O/MC4-4 (io), 150 I/O/MC4-7 (io), 151 I/O/MC4-10 (io), 152 I/O/MC4-14 (io), 153 I/O/MC4-13 (io), 154 I/O/MC4-15 (io), 155 I/O/MC4-16 (io), 156 I/O/MC4-17 (io), 157 VCC INT (power), 158 I/O/MC2-1 (io), 159 I/O/GSR/MC2-2 (io), 160 GND (power)

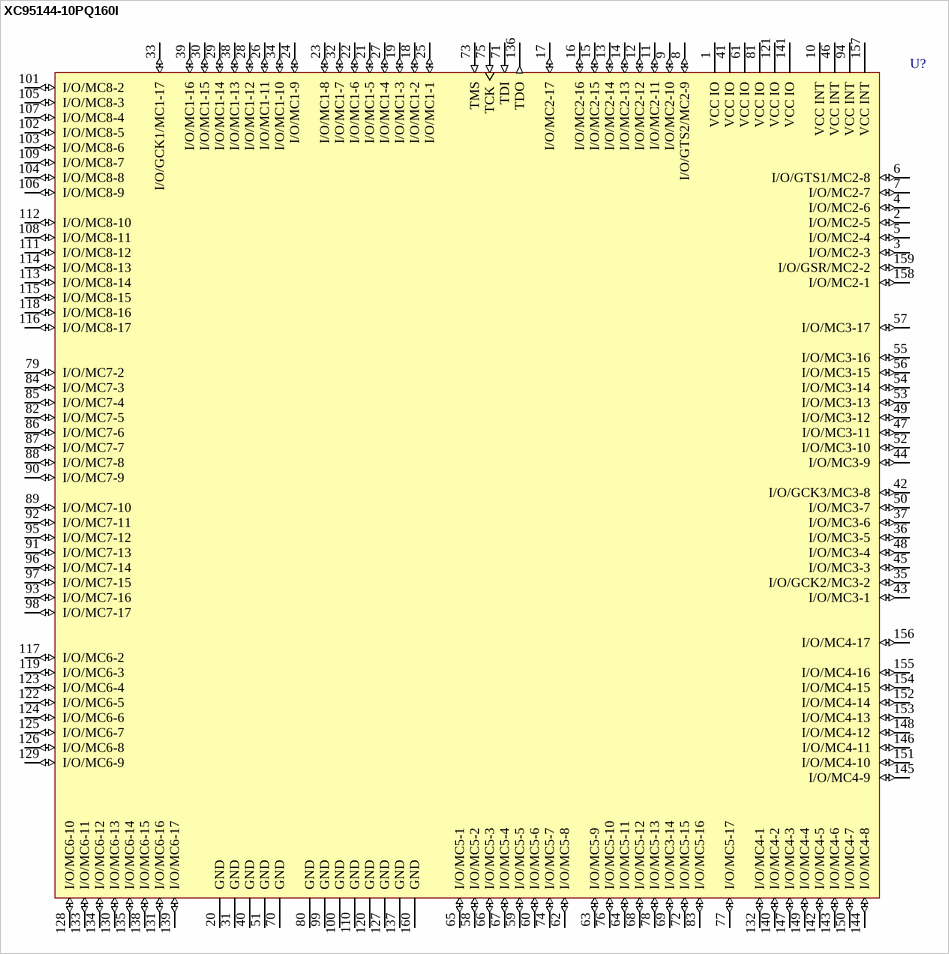
[diagram p18: symbol XC95144-10PQ160I]

## XC95144-10PQ160I
designator U?
XC9500, 5V CPLD with 144 Macrocells, 160-Pin PQFP, Industrial Grade; PackageDocument: ver1.1, Oct-2002; Published: 8-Jun-2000; LatestRevisionDate: 26-May-2004; LatestRevisionNote: SCH Symbol updated (GTS3 & GTS4 pin reference removed) to match Feb 2004 datasheet.; DatasheetDocument: ver5.3, Feb-2004; PackageReference: PQ160; Publisher: Altium Limited; Code_JEDEC: MS-022-DD1
footprint PQ160 (160-Pin Plastic Quad Flat Pack (PQ160))
3D model XC95144-PQ160 (160-Pin Plastic Quad Flat Pack (PQ160))
signal-integrity model XC95144_PQ160 (XC9500)
pins: 1 VCC IO (power), 2 I/O/MC2-5 (io), 3 I/O/MC2-3 (io), 4 I/O/MC2-6 (io), 5 I/O/MC2-4 (io), 6 I/O/GTS1/MC2-8 (io), 7 I/O/MC2-7 (io), 8 I/O/GTS2/MC2-9 (io), 9 I/O/MC2-10 (io), 10 VCC INT (power), 11 I/O/MC2-11 (io), 12 I/O/MC2-12 (io), 13 I/O/MC2-14 (io), 14 I/O/MC2-13 (io), 15 I/O/MC2-15 (io), 16 I/O/MC2-16 (io), 17 I/O/MC2-17 (io), 18 I/O/MC1-2 (io), 19 I/O/MC1-3 (io), 20 GND (power), 21 I/O/MC1-5 (io), 22 I/O/MC1-6 (io), 23 I/O/MC1-8 (io), 24 I/O/MC1-9 (io), 25 I/O/MC1-1 (io), 26 I/O/MC1-11 (io), 27 I/O/MC1-4 (io), 28 I/O/MC1-12 (io), 29 I/O/MC1-14 (io), 30 I/O/MC1-15 (io), 31 GND (power), 32 I/O/MC1-7 (io), 33 I/O/GCK1/MC1-17 (io), 34 I/O/MC1-10 (io), 35 I/O/GCK2/MC3-2 (io), 36 I/O/MC3-5 (io), 37 I/O/MC3-6 (io), 38 I/O/MC1-13 (io), 39 I/O/MC1-16 (io), 40 GND (power), 41 VCC IO (power), 42 I/O/GCK3/MC3-8 (io), 43 I/O/MC3-1 (io), 44 I/O/MC3-9 (io), 45 I/O/MC3-3 (io), 46 VCC INT (power), 47 I/O/MC3-11 (io), 48 I/O/MC3-4 (io), 49 I/O/MC3-12 (io), 50 I/O/MC3-7 (io), 51 GND (power), 52 I/O/MC3-10 (io), 53 I/O/MC3-13 (io), 54 I/O/MC3-14 (io), 55 I/O/MC3-16 (io), 56 I/O/MC3-15 (io), 57 I/O/MC3-17 (io), 58 I/O/MC5-2 (io), 59 I/O/MC5-5 (io), 60 I/O/MC5-6 (io), 61 VCC IO (power), 62 I/O/MC5-8 (io), 63 I/O/MC5-9 (io), 64 I/O/MC5-11 (io), 65 I/O/MC5-1 (io), 66 I/O/MC5-3 (io), 67 I/O/MC5-4 (io), 68 I/O/MC5-12 (io), 69 I/O/MC3-14 (io), 70 GND (power), 71 TDI (in), 72 I/O/MC5-15 (io), 73 TMS (in), 74 I/O/MC5-7 (io), 75 TCK (in), 76 I/O/MC5-10 (io), 77 I/O/MC5-17 (io), 78 I/O/MC5-13 (io), 79 I/O/MC7-2 (io), 80 GND (power), 81 VCC IO (power), 82 I/O/MC7-5 (io), 83 I/O/MC5-16 (io), 84 I/O/MC7-3 (io), 85 I/O/MC7-4 (io), 86 I/O/MC7-6 (io), 87 I/O/MC7-7 (io), 88 I/O/MC7-8 (io), 89 I/O/MC7-10 (io), 90 I/O/MC7-9 (io), 91 I/O/MC7-13 (io), 92 I/O/MC7-11 (io), 93 I/O/MC7-16 (io), 94 VCC INT (power), 95 I/O/MC7-12 (io), 96 I/O/MC7-14 (io), 97 I/O/MC7-15 (io), 98 I/O/MC7-17 (io), 99 GND (power), 100 GND (power), 101 I/O/MC8-2 (io), 102 I/O/MC8-5 (io), 103 I/O/MC8-6 (io), 104 I/O/MC8-8 (io), 105 I/O/MC8-3 (io), 106 I/O/MC8-9 (io), 107 I/O/MC8-4 (io), 108 I/O/MC8-11 (io), 109 I/O/MC8-7 (io), 110 GND (power), 111 I/O/MC8-12 (io), 112 I/O/MC8-10 (io), 113 I/O/MC8-14 (io), 114 I/O/MC8-13 (io), 115 I/O/MC8-15 (io), 116 I/O/MC8-17 (io), 117 I/O/MC6-2 (io), 118 I/O/MC8-16 (io), 119 I/O/MC6-3 (io), 120 GND (power), 121 VCC IO (power), 122 I/O/MC6-5 (io), 123 I/O/MC6-4 (io), 124 I/O/MC6-6 (io), 125 I/O/MC6-7 (io), 126 I/O/MC6-8 (io), 127 GND (power), 128 I/O/MC6-10 (io), 129 I/O/MC6-9 (io), 130 I/O/MC6-13 (io), 131 I/O/MC6-16 (io), 132 I/O/MC4-1 (io), 133 I/O/MC6-11 (io), 134 I/O/MC6-12 (io), 135 I/O/MC6-14 (io), 136 TDO (out), 137 GND (power), 138 I/O/MC6-15 (io), 139 I/O/MC6-17 (io), 140 I/O/MC4-2 (io), 141 VCC IO (power), 142 I/O/MC4-5 (io), 143 I/O/MC4-6 (io), 144 I/O/MC4-8 (io), 145 I/O/MC4-9 (io), 146 I/O/MC4-11 (io), 147 I/O/MC4-3 (io), 148 I/O/MC4-12 (io), 149 I/O/MC4-4 (io), 150 I/O/MC4-7 (io), 151 I/O/MC4-10 (io), 152 I/O/MC4-14 (io), 153 I/O/MC4-13 (io), 154 I/O/MC4-15 (io), 155 I/O/MC4-16 (io), 156 I/O/MC4-17 (io), 157 VCC INT (power), 158 I/O/MC2-1 (io), 159 I/O/GSR/MC2-2 (io), 160 GND (power)

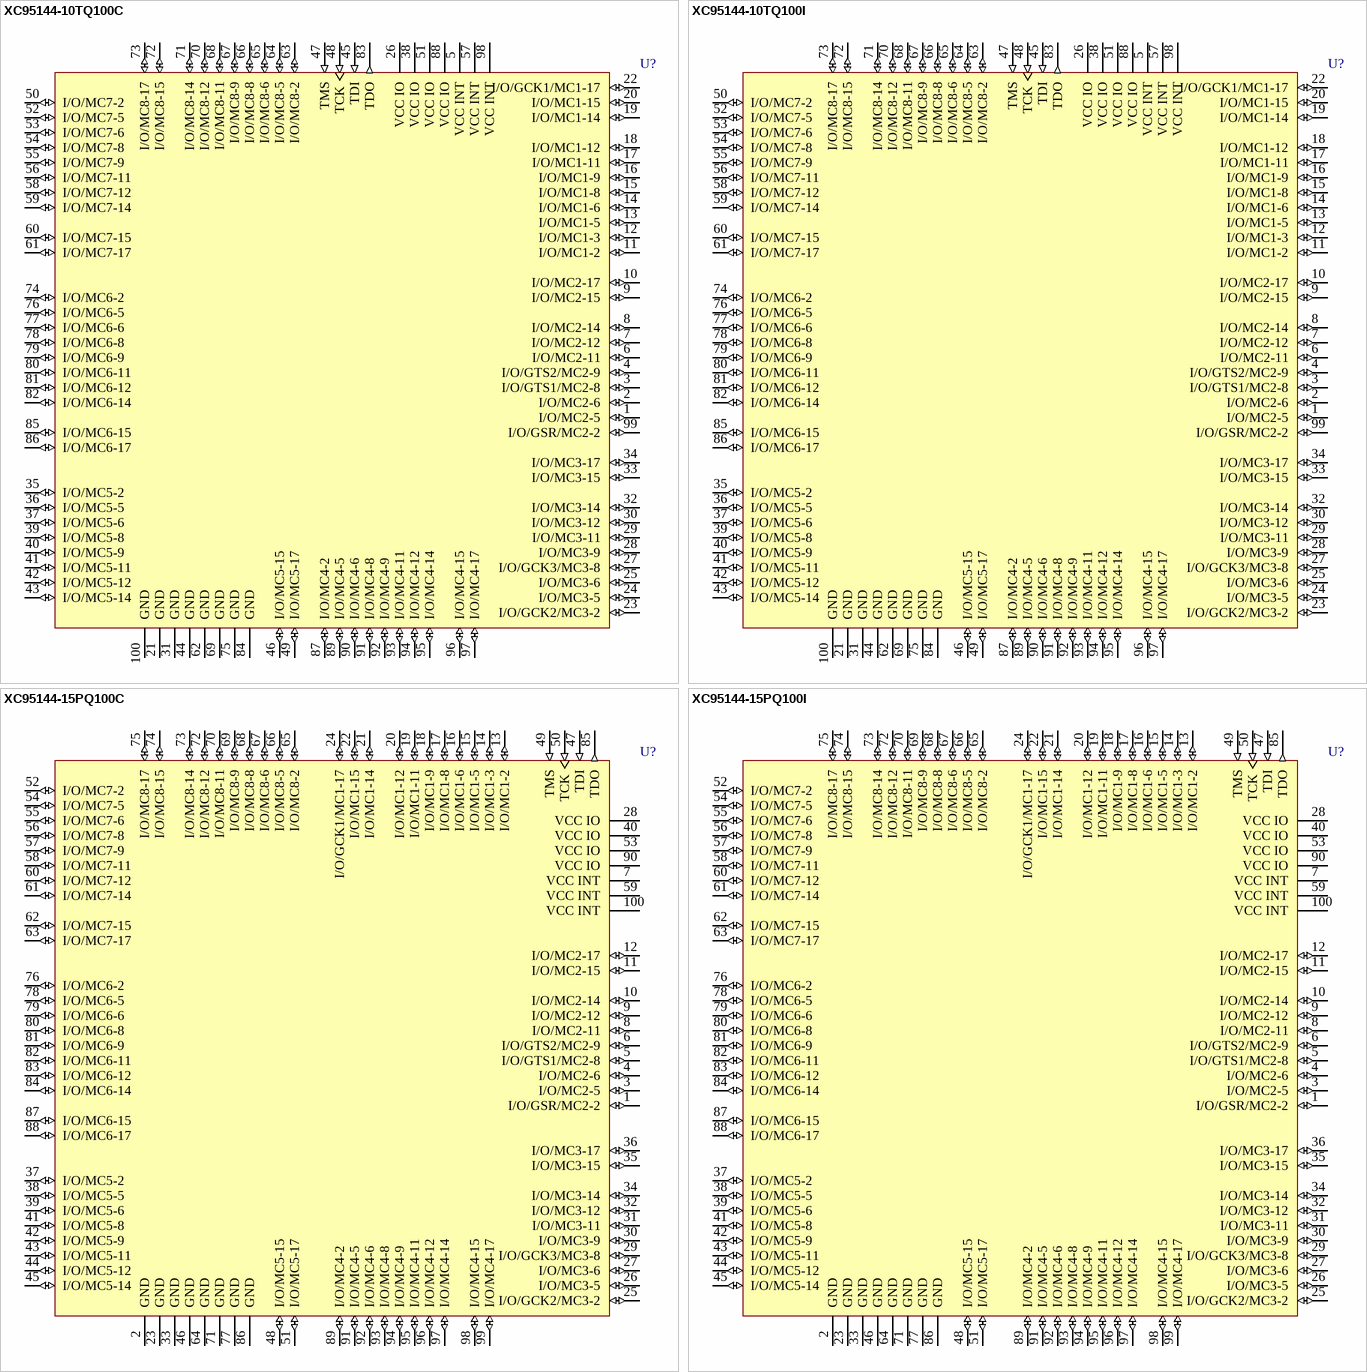
[diagram p19: symbols XC95144-10TQ100C to XC95144-15PQ100I]

## XC95144-10TQ100C
designator U?
XC9500, 5V CPLD with 144 Macrocells, 100-Pin TQFP, Commercial Grade; PackageDocument: ver1.1, Oct-2002; Published: 8-Jun-2000; LatestRevisionDate: 26-May-2004; LatestRevisionNote: SCH Symbol updated (GTS3 & GTS4 pin reference removed) to match Feb 2004 datasheet.; DatasheetDocument: ver5.3, Feb-2004; PackageReference: TQ100; Publisher: Altium Limited; Code_IPC: SQFP14X14-100
footprint TQ100 (100-Pin Thin Quad Flat Pack (TQ100))
3D model XC95144-TQ100 (100-Pin Thin Quad Flat Pack (TQ100))
signal-integrity model XC95144_TQ100 (XC9500)
pins: 1 I/O/MC2-5 (io), 2 I/O/MC2-6 (io), 3 I/O/GTS1/MC2-8 (io), 4 I/O/GTS2/MC2-9 (io), 5 VCC INT (power), 6 I/O/MC2-11 (io), 7 I/O/MC2-12 (io), 8 I/O/MC2-14 (io), 9 I/O/MC2-15 (io), 10 I/O/MC2-17 (io), 11 I/O/MC1-2 (io), 12 I/O/MC1-3 (io), 13 I/O/MC1-5 (io), 14 I/O/MC1-6 (io), 15 I/O/MC1-8 (io), 16 I/O/MC1-9 (io), 17 I/O/MC1-11 (io), 18 I/O/MC1-12 (io), 19 I/O/MC1-14 (io), 20 I/O/MC1-15 (io), 21 GND (power), 22 I/O/GCK1/MC1-17 (io), 23 I/O/GCK2/MC3-2 (io), 24 I/O/MC3-5 (io), 25 I/O/MC3-6 (io), 26 VCC IO (power), 27 I/O/GCK3/MC3-8 (io), 28 I/O/MC3-9 (io), 29 I/O/MC3-11 (io), 30 I/O/MC3-12 (io), 31 GND (power), 32 I/O/MC3-14 (io), 33 I/O/MC3-15 (io), 34 I/O/MC3-17 (io), 35 I/O/MC5-2 (io), 36 I/O/MC5-5 (io), 37 I/O/MC5-6 (io), 38 VCC IO (power), 39 I/O/MC5-8 (io), 40 I/O/MC5-9 (io), 41 I/O/MC5-11 (io), 42 I/O/MC5-12 (io), 43 I/O/MC5-14 (io), 44 GND (power), 45 TDI (in), 46 I/O/MC5-15 (io), 47 TMS (in), 48 TCK (in), 49 I/O/MC5-17 (io), 50 I/O/MC7-2 (io), 51 VCC IO (power), 52 I/O/MC7-5 (io), 53 I/O/MC7-6 (io), 54 I/O/MC7-8 (io), 55 I/O/MC7-9 (io), 56 I/O/MC7-11 (io), 57 VCC INT (power), 58 I/O/MC7-12 (io), 59 I/O/MC7-14 (io), 60 I/O/MC7-15 (io), 61 I/O/MC7-17 (io), 62 GND (power), 63 I/O/MC8-2 (io), 64 I/O/MC8-5 (io), 65 I/O/MC8-6 (io), 66 I/O/MC8-8 (io), 67 I/O/MC8-9 (io), 68 I/O/MC8-11 (io), 69 GND (power), 70 I/O/MC8-12 (io), 71 I/O/MC8-14 (io), 72 I/O/MC8-15 (io), 73 I/O/MC8-17 (io), 74 I/O/MC6-2 (io), 75 GND (power), 76 I/O/MC6-5 (io), 77 I/O/MC6-6 (io), 78 I/O/MC6-8 (io), 79 I/O/MC6-9 (io), 80 I/O/MC6-11 (io), 81 I/O/MC6-12 (io), 82 I/O/MC6-14 (io), 83 TDO (out), 84 GND (power), 85 I/O/MC6-15 (io), 86 I/O/MC6-17 (io), 87 I/O/MC4-2 (io), 88 VCC IO (power), 89 I/O/MC4-5 (io), 90 I/O/MC4-6 (io), 91 I/O/MC4-8 (io), 92 I/O/MC4-9 (io), 93 I/O/MC4-11 (io), 94 I/O/MC4-12 (io), 95 I/O/MC4-14 (io), 96 I/O/MC4-15 (io), 97 I/O/MC4-17 (io), 98 VCC INT (power), 99 I/O/GSR/MC2-2 (io), 100 GND (power)

## XC95144-10TQ100I
designator U?
XC9500, 5V CPLD with 144 Macrocells, 100-Pin TQFP, Industrial Grade; PackageDocument: ver1.1, Oct-2002; Published: 8-Jun-2000; LatestRevisionDate: 26-May-2004; LatestRevisionNote: SCH Symbol updated (GTS3 & GTS4 pin reference removed) to match Feb 2004 datasheet.; DatasheetDocument: ver5.3, Feb-2004; PackageReference: TQ100; Publisher: Altium Limited; Code_IPC: SQFP14X14-100
footprint TQ100 (100-Pin Thin Quad Flat Pack (TQ100))
3D model XC95144-TQ100 (100-Pin Thin Quad Flat Pack (TQ100))
signal-integrity model XC95144_TQ100 (XC9500)
pins: 1 I/O/MC2-5 (io), 2 I/O/MC2-6 (io), 3 I/O/GTS1/MC2-8 (io), 4 I/O/GTS2/MC2-9 (io), 5 VCC INT (power), 6 I/O/MC2-11 (io), 7 I/O/MC2-12 (io), 8 I/O/MC2-14 (io), 9 I/O/MC2-15 (io), 10 I/O/MC2-17 (io), 11 I/O/MC1-2 (io), 12 I/O/MC1-3 (io), 13 I/O/MC1-5 (io), 14 I/O/MC1-6 (io), 15 I/O/MC1-8 (io), 16 I/O/MC1-9 (io), 17 I/O/MC1-11 (io), 18 I/O/MC1-12 (io), 19 I/O/MC1-14 (io), 20 I/O/MC1-15 (io), 21 GND (power), 22 I/O/GCK1/MC1-17 (io), 23 I/O/GCK2/MC3-2 (io), 24 I/O/MC3-5 (io), 25 I/O/MC3-6 (io), 26 VCC IO (power), 27 I/O/GCK3/MC3-8 (io), 28 I/O/MC3-9 (io), 29 I/O/MC3-11 (io), 30 I/O/MC3-12 (io), 31 GND (power), 32 I/O/MC3-14 (io), 33 I/O/MC3-15 (io), 34 I/O/MC3-17 (io), 35 I/O/MC5-2 (io), 36 I/O/MC5-5 (io), 37 I/O/MC5-6 (io), 38 VCC IO (power), 39 I/O/MC5-8 (io), 40 I/O/MC5-9 (io), 41 I/O/MC5-11 (io), 42 I/O/MC5-12 (io), 43 I/O/MC5-14 (io), 44 GND (power), 45 TDI (in), 46 I/O/MC5-15 (io), 47 TMS (in), 48 TCK (in), 49 I/O/MC5-17 (io), 50 I/O/MC7-2 (io), 51 VCC IO (power), 52 I/O/MC7-5 (io), 53 I/O/MC7-6 (io), 54 I/O/MC7-8 (io), 55 I/O/MC7-9 (io), 56 I/O/MC7-11 (io), 57 VCC INT (power), 58 I/O/MC7-12 (io), 59 I/O/MC7-14 (io), 60 I/O/MC7-15 (io), 61 I/O/MC7-17 (io), 62 GND (power), 63 I/O/MC8-2 (io), 64 I/O/MC8-5 (io), 65 I/O/MC8-6 (io), 66 I/O/MC8-8 (io), 67 I/O/MC8-9 (io), 68 I/O/MC8-11 (io), 69 GND (power), 70 I/O/MC8-12 (io), 71 I/O/MC8-14 (io), 72 I/O/MC8-15 (io), 73 I/O/MC8-17 (io), 74 I/O/MC6-2 (io), 75 GND (power), 76 I/O/MC6-5 (io), 77 I/O/MC6-6 (io), 78 I/O/MC6-8 (io), 79 I/O/MC6-9 (io), 80 I/O/MC6-11 (io), 81 I/O/MC6-12 (io), 82 I/O/MC6-14 (io), 83 TDO (out), 84 GND (power), 85 I/O/MC6-15 (io), 86 I/O/MC6-17 (io), 87 I/O/MC4-2 (io), 88 VCC IO (power), 89 I/O/MC4-5 (io), 90 I/O/MC4-6 (io), 91 I/O/MC4-8 (io), 92 I/O/MC4-9 (io), 93 I/O/MC4-11 (io), 94 I/O/MC4-12 (io), 95 I/O/MC4-14 (io), 96 I/O/MC4-15 (io), 97 I/O/MC4-17 (io), 98 VCC INT (power), 99 I/O/GSR/MC2-2 (io), 100 GND (power)

## XC95144-15PQ100C
designator U?
XC9500, 5V CPLD with 144 Macrocells, 100-Pin PQFP, Commercial Grade; PackageDocument: ver1.2, Oct-2002; Published: 8-Jun-2000; LatestRevisionDate: 26-May-2004; LatestRevisionNote: SCH Symbol updated (GTS3 & GTS4 pin reference removed) to match Feb 2004 datasheet.; DatasheetDocument: ver5.3, Feb-2004; PackageReference: PQ100; Publisher: Altium Limited; Code_IPC: QFP-14X20-100
footprint PQ100 (100-Pin Plastic Quad Flat Pack (PQ100))
3D model XC95144-PQ100 (100-Pin Plastic Quad Flat Pack (PQ100))
signal-integrity model XC95144_PQ100 (XC9500)
pins: 1 I/O/GSR/MC2-2 (io), 2 GND (power), 3 I/O/MC2-5 (io), 4 I/O/MC2-6 (io), 5 I/O/GTS1/MC2-8 (io), 6 I/O/GTS2/MC2-9 (io), 7 VCC INT (power), 8 I/O/MC2-11 (io), 9 I/O/MC2-12 (io), 10 I/O/MC2-14 (io), 11 I/O/MC2-15 (io), 12 I/O/MC2-17 (io), 13 I/O/MC1-2 (io), 14 I/O/MC1-3 (io), 15 I/O/MC1-5 (io), 16 I/O/MC1-6 (io), 17 I/O/MC1-8 (io), 18 I/O/MC1-9 (io), 19 I/O/MC1-11 (io), 20 I/O/MC1-12 (io), 21 I/O/MC1-14 (io), 22 I/O/MC1-15 (io), 23 GND (power), 24 I/O/GCK1/MC1-17 (io), 25 I/O/GCK2/MC3-2 (io), 26 I/O/MC3-5 (io), 27 I/O/MC3-6 (io), 28 VCC IO (power), 29 I/O/GCK3/MC3-8 (io), 30 I/O/MC3-9 (io), 31 I/O/MC3-11 (io), 32 I/O/MC3-12 (io), 33 GND (power), 34 I/O/MC3-14 (io), 35 I/O/MC3-15 (io), 36 I/O/MC3-17 (io), 37 I/O/MC5-2 (io), 38 I/O/MC5-5 (io), 39 I/O/MC5-6 (io), 40 VCC IO (power), 41 I/O/MC5-8 (io), 42 I/O/MC5-9 (io), 43 I/O/MC5-11 (io), 44 I/O/MC5-12 (io), 45 I/O/MC5-14 (io), 46 GND (power), 47 TDI (in), 48 I/O/MC5-15 (io), 49 TMS (in), 50 TCK (in), 51 I/O/MC5-17 (io), 52 I/O/MC7-2 (io), 53 VCC IO (power), 54 I/O/MC7-5 (io), 55 I/O/MC7-6 (io), 56 I/O/MC7-8 (io), 57 I/O/MC7-9 (io), 58 I/O/MC7-11 (io), 59 VCC INT (power), 60 I/O/MC7-12 (io), 61 I/O/MC7-14 (io), 62 I/O/MC7-15 (io), 63 I/O/MC7-17 (io), 64 GND (power), 65 I/O/MC8-2 (io), 66 I/O/MC8-5 (io), 67 I/O/MC8-6 (io), 68 I/O/MC8-8 (io), 69 I/O/MC8-9 (io), 70 I/O/MC8-11 (io), 71 GND (power), 72 I/O/MC8-12 (io), 73 I/O/MC8-14 (io), 74 I/O/MC8-15 (io), 75 I/O/MC8-17 (io), 76 I/O/MC6-2 (io), 77 GND (power), 78 I/O/MC6-5 (io), 79 I/O/MC6-6 (io), 80 I/O/MC6-8 (io), 81 I/O/MC6-9 (io), 82 I/O/MC6-11 (io), 83 I/O/MC6-12 (io), 84 I/O/MC6-14 (io), 85 TDO (out), 86 GND (power), 87 I/O/MC6-15 (io), 88 I/O/MC6-17 (io), 89 I/O/MC4-2 (io), 90 VCC IO (power), 91 I/O/MC4-5 (io), 92 I/O/MC4-6 (io), 93 I/O/MC4-8 (io), 94 I/O/MC4-9 (io), 95 I/O/MC4-11 (io), 96 I/O/MC4-12 (io), 97 I/O/MC4-14 (io), 98 I/O/MC4-15 (io), 99 I/O/MC4-17 (io), 100 VCC INT (power)

## XC95144-15PQ100I
designator U?
XC9500, 5V CPLD with 144 Macrocells, 100-Pin PQFP, Industrial Grade; PackageDocument: ver1.2, Oct-2002; Published: 8-Jun-2000; LatestRevisionDate: 26-May-2004; LatestRevisionNote: SCH Symbol updated (GTS3 & GTS4 pin reference removed) to match Feb 2004 datasheet.; DatasheetDocument: ver5.3, Feb-2004; PackageReference: PQ100; Publisher: Altium Limited; Code_IPC: QFP-14X20-100
footprint PQ100 (100-Pin Plastic Quad Flat Pack (PQ100))
3D model XC95144-PQ100 (100-Pin Plastic Quad Flat Pack (PQ100))
signal-integrity model XC95144_PQ100 (XC9500)
pins: 1 I/O/GSR/MC2-2 (io), 2 GND (power), 3 I/O/MC2-5 (io), 4 I/O/MC2-6 (io), 5 I/O/GTS1/MC2-8 (io), 6 I/O/GTS2/MC2-9 (io), 7 VCC INT (power), 8 I/O/MC2-11 (io), 9 I/O/MC2-12 (io), 10 I/O/MC2-14 (io), 11 I/O/MC2-15 (io), 12 I/O/MC2-17 (io), 13 I/O/MC1-2 (io), 14 I/O/MC1-3 (io), 15 I/O/MC1-5 (io), 16 I/O/MC1-6 (io), 17 I/O/MC1-8 (io), 18 I/O/MC1-9 (io), 19 I/O/MC1-11 (io), 20 I/O/MC1-12 (io), 21 I/O/MC1-14 (io), 22 I/O/MC1-15 (io), 23 GND (power), 24 I/O/GCK1/MC1-17 (io), 25 I/O/GCK2/MC3-2 (io), 26 I/O/MC3-5 (io), 27 I/O/MC3-6 (io), 28 VCC IO (power), 29 I/O/GCK3/MC3-8 (io), 30 I/O/MC3-9 (io), 31 I/O/MC3-11 (io), 32 I/O/MC3-12 (io), 33 GND (power), 34 I/O/MC3-14 (io), 35 I/O/MC3-15 (io), 36 I/O/MC3-17 (io), 37 I/O/MC5-2 (io), 38 I/O/MC5-5 (io), 39 I/O/MC5-6 (io), 40 VCC IO (power), 41 I/O/MC5-8 (io), 42 I/O/MC5-9 (io), 43 I/O/MC5-11 (io), 44 I/O/MC5-12 (io), 45 I/O/MC5-14 (io), 46 GND (power), 47 TDI (in), 48 I/O/MC5-15 (io), 49 TMS (in), 50 TCK (in), 51 I/O/MC5-17 (io), 52 I/O/MC7-2 (io), 53 VCC IO (power), 54 I/O/MC7-5 (io), 55 I/O/MC7-6 (io), 56 I/O/MC7-8 (io), 57 I/O/MC7-9 (io), 58 I/O/MC7-11 (io), 59 VCC INT (power), 60 I/O/MC7-12 (io), 61 I/O/MC7-14 (io), 62 I/O/MC7-15 (io), 63 I/O/MC7-17 (io), 64 GND (power), 65 I/O/MC8-2 (io), 66 I/O/MC8-5 (io), 67 I/O/MC8-6 (io), 68 I/O/MC8-8 (io), 69 I/O/MC8-9 (io), 70 I/O/MC8-11 (io), 71 GND (power), 72 I/O/MC8-12 (io), 73 I/O/MC8-14 (io), 74 I/O/MC8-15 (io), 75 I/O/MC8-17 (io), 76 I/O/MC6-2 (io), 77 GND (power), 78 I/O/MC6-5 (io), 79 I/O/MC6-6 (io), 80 I/O/MC6-8 (io), 81 I/O/MC6-9 (io), 82 I/O/MC6-11 (io), 83 I/O/MC6-12 (io), 84 I/O/MC6-14 (io), 85 TDO (out), 86 GND (power), 87 I/O/MC6-15 (io), 88 I/O/MC6-17 (io), 89 I/O/MC4-2 (io), 90 VCC IO (power), 91 I/O/MC4-5 (io), 92 I/O/MC4-6 (io), 93 I/O/MC4-8 (io), 94 I/O/MC4-9 (io), 95 I/O/MC4-11 (io), 96 I/O/MC4-12 (io), 97 I/O/MC4-14 (io), 98 I/O/MC4-15 (io), 99 I/O/MC4-17 (io), 100 VCC INT (power)

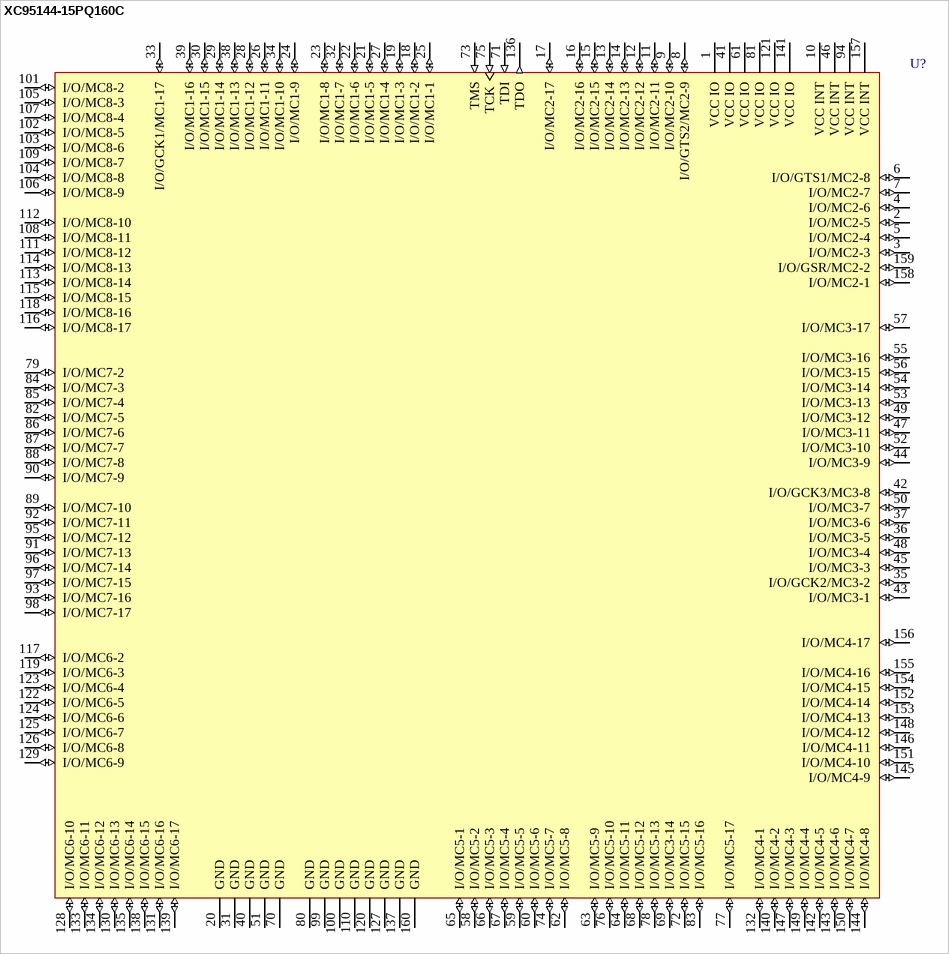
[diagram p20: symbol XC95144-15PQ160C]

## XC95144-15PQ160C
designator U?
XC9500, 5V CPLD with 144 Macrocells, 160-Pin PQFP, Commercial Grade; PackageDocument: ver1.1, Oct-2002; Published: 8-Jun-2000; LatestRevisionDate: 26-May-2004; LatestRevisionNote: SCH Symbol updated (GTS3 & GTS4 pin reference removed) to match Feb 2004 datasheet.; DatasheetDocument: ver5.3, Feb-2004; PackageReference: PQ160; Publisher: Altium Limited; Code_JEDEC: MS-022-DD1
footprint PQ160 (160-Pin Plastic Quad Flat Pack (PQ160))
3D model XC95144-PQ160 (160-Pin Plastic Quad Flat Pack (PQ160))
signal-integrity model XC95144_PQ160 (XC9500)
pins: 1 VCC IO (power), 2 I/O/MC2-5 (io), 3 I/O/MC2-3 (io), 4 I/O/MC2-6 (io), 5 I/O/MC2-4 (io), 6 I/O/GTS1/MC2-8 (io), 7 I/O/MC2-7 (io), 8 I/O/GTS2/MC2-9 (io), 9 I/O/MC2-10 (io), 10 VCC INT (power), 11 I/O/MC2-11 (io), 12 I/O/MC2-12 (io), 13 I/O/MC2-14 (io), 14 I/O/MC2-13 (io), 15 I/O/MC2-15 (io), 16 I/O/MC2-16 (io), 17 I/O/MC2-17 (io), 18 I/O/MC1-2 (io), 19 I/O/MC1-3 (io), 20 GND (power), 21 I/O/MC1-5 (io), 22 I/O/MC1-6 (io), 23 I/O/MC1-8 (io), 24 I/O/MC1-9 (io), 25 I/O/MC1-1 (io), 26 I/O/MC1-11 (io), 27 I/O/MC1-4 (io), 28 I/O/MC1-12 (io), 29 I/O/MC1-14 (io), 30 I/O/MC1-15 (io), 31 GND (power), 32 I/O/MC1-7 (io), 33 I/O/GCK1/MC1-17 (io), 34 I/O/MC1-10 (io), 35 I/O/GCK2/MC3-2 (io), 36 I/O/MC3-5 (io), 37 I/O/MC3-6 (io), 38 I/O/MC1-13 (io), 39 I/O/MC1-16 (io), 40 GND (power), 41 VCC IO (power), 42 I/O/GCK3/MC3-8 (io), 43 I/O/MC3-1 (io), 44 I/O/MC3-9 (io), 45 I/O/MC3-3 (io), 46 VCC INT (power), 47 I/O/MC3-11 (io), 48 I/O/MC3-4 (io), 49 I/O/MC3-12 (io), 50 I/O/MC3-7 (io), 51 GND (power), 52 I/O/MC3-10 (io), 53 I/O/MC3-13 (io), 54 I/O/MC3-14 (io), 55 I/O/MC3-16 (io), 56 I/O/MC3-15 (io), 57 I/O/MC3-17 (io), 58 I/O/MC5-2 (io), 59 I/O/MC5-5 (io), 60 I/O/MC5-6 (io), 61 VCC IO (power), 62 I/O/MC5-8 (io), 63 I/O/MC5-9 (io), 64 I/O/MC5-11 (io), 65 I/O/MC5-1 (io), 66 I/O/MC5-3 (io), 67 I/O/MC5-4 (io), 68 I/O/MC5-12 (io), 69 I/O/MC3-14 (io), 70 GND (power), 71 TDI (in), 72 I/O/MC5-15 (io), 73 TMS (in), 74 I/O/MC5-7 (io), 75 TCK (in), 76 I/O/MC5-10 (io), 77 I/O/MC5-17 (io), 78 I/O/MC5-13 (io), 79 I/O/MC7-2 (io), 80 GND (power), 81 VCC IO (power), 82 I/O/MC7-5 (io), 83 I/O/MC5-16 (io), 84 I/O/MC7-3 (io), 85 I/O/MC7-4 (io), 86 I/O/MC7-6 (io), 87 I/O/MC7-7 (io), 88 I/O/MC7-8 (io), 89 I/O/MC7-10 (io), 90 I/O/MC7-9 (io), 91 I/O/MC7-13 (io), 92 I/O/MC7-11 (io), 93 I/O/MC7-16 (io), 94 VCC INT (power), 95 I/O/MC7-12 (io), 96 I/O/MC7-14 (io), 97 I/O/MC7-15 (io), 98 I/O/MC7-17 (io), 99 GND (power), 100 GND (power), 101 I/O/MC8-2 (io), 102 I/O/MC8-5 (io), 103 I/O/MC8-6 (io), 104 I/O/MC8-8 (io), 105 I/O/MC8-3 (io), 106 I/O/MC8-9 (io), 107 I/O/MC8-4 (io), 108 I/O/MC8-11 (io), 109 I/O/MC8-7 (io), 110 GND (power), 111 I/O/MC8-12 (io), 112 I/O/MC8-10 (io), 113 I/O/MC8-14 (io), 114 I/O/MC8-13 (io), 115 I/O/MC8-15 (io), 116 I/O/MC8-17 (io), 117 I/O/MC6-2 (io), 118 I/O/MC8-16 (io), 119 I/O/MC6-3 (io), 120 GND (power), 121 VCC IO (power), 122 I/O/MC6-5 (io), 123 I/O/MC6-4 (io), 124 I/O/MC6-6 (io), 125 I/O/MC6-7 (io), 126 I/O/MC6-8 (io), 127 GND (power), 128 I/O/MC6-10 (io), 129 I/O/MC6-9 (io), 130 I/O/MC6-13 (io), 131 I/O/MC6-16 (io), 132 I/O/MC4-1 (io), 133 I/O/MC6-11 (io), 134 I/O/MC6-12 (io), 135 I/O/MC6-14 (io), 136 TDO (out), 137 GND (power), 138 I/O/MC6-15 (io), 139 I/O/MC6-17 (io), 140 I/O/MC4-2 (io), 141 VCC IO (power), 142 I/O/MC4-5 (io), 143 I/O/MC4-6 (io), 144 I/O/MC4-8 (io), 145 I/O/MC4-9 (io), 146 I/O/MC4-11 (io), 147 I/O/MC4-3 (io), 148 I/O/MC4-12 (io), 149 I/O/MC4-4 (io), 150 I/O/MC4-7 (io), 151 I/O/MC4-10 (io), 152 I/O/MC4-14 (io), 153 I/O/MC4-13 (io), 154 I/O/MC4-15 (io), 155 I/O/MC4-16 (io), 156 I/O/MC4-17 (io), 157 VCC INT (power), 158 I/O/MC2-1 (io), 159 I/O/GSR/MC2-2 (io), 160 GND (power)

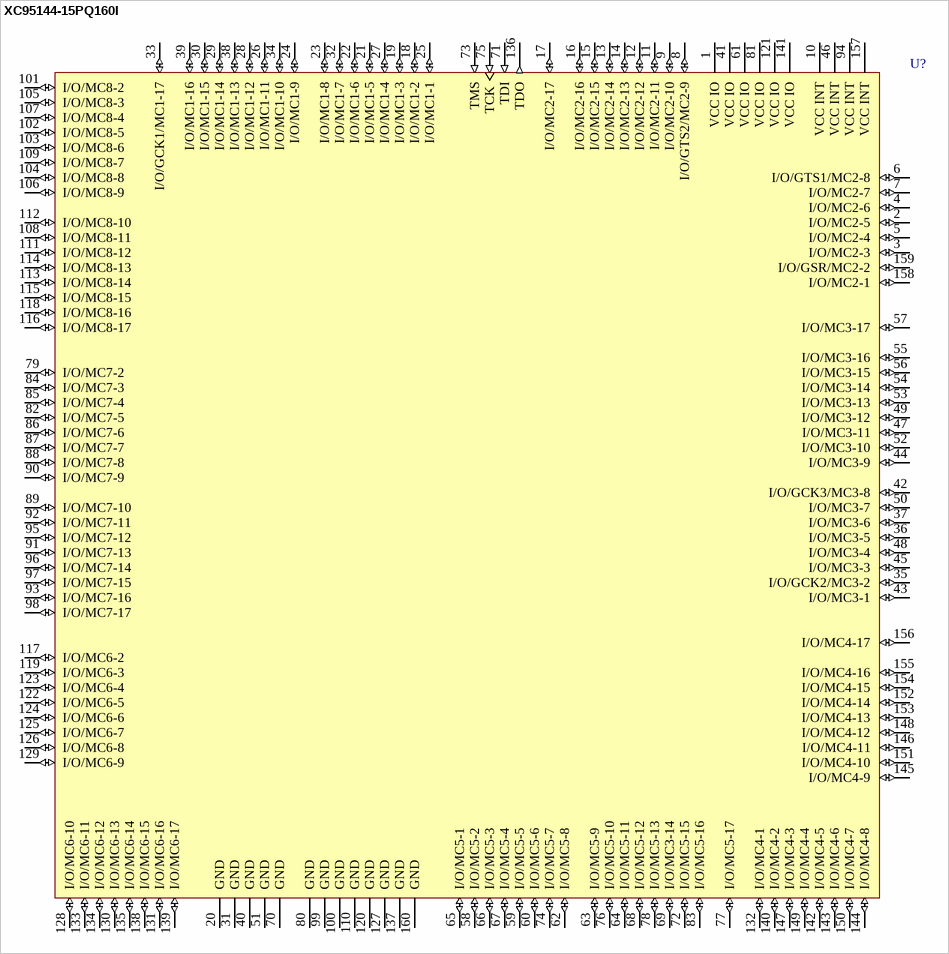
[diagram p21: symbol XC95144-15PQ160I]

## XC95144-15PQ160I
designator U?
XC9500, 5V CPLD with 144 Macrocells, 160-Pin PQFP, Industrial Grade; PackageDocument: ver1.1, Oct-2002; Published: 8-Jun-2000; LatestRevisionDate: 26-May-2004; LatestRevisionNote: SCH Symbol updated (GTS3 & GTS4 pin reference removed) to match Feb 2004 datasheet.; DatasheetDocument: ver5.3, Feb-2004; PackageReference: PQ160; Publisher: Altium Limited; Code_JEDEC: MS-022-DD1
footprint PQ160 (160-Pin Plastic Quad Flat Pack (PQ160))
3D model XC95144-PQ160 (160-Pin Plastic Quad Flat Pack (PQ160))
signal-integrity model XC95144_PQ160 (XC9500)
pins: 1 VCC IO (power), 2 I/O/MC2-5 (io), 3 I/O/MC2-3 (io), 4 I/O/MC2-6 (io), 5 I/O/MC2-4 (io), 6 I/O/GTS1/MC2-8 (io), 7 I/O/MC2-7 (io), 8 I/O/GTS2/MC2-9 (io), 9 I/O/MC2-10 (io), 10 VCC INT (power), 11 I/O/MC2-11 (io), 12 I/O/MC2-12 (io), 13 I/O/MC2-14 (io), 14 I/O/MC2-13 (io), 15 I/O/MC2-15 (io), 16 I/O/MC2-16 (io), 17 I/O/MC2-17 (io), 18 I/O/MC1-2 (io), 19 I/O/MC1-3 (io), 20 GND (power), 21 I/O/MC1-5 (io), 22 I/O/MC1-6 (io), 23 I/O/MC1-8 (io), 24 I/O/MC1-9 (io), 25 I/O/MC1-1 (io), 26 I/O/MC1-11 (io), 27 I/O/MC1-4 (io), 28 I/O/MC1-12 (io), 29 I/O/MC1-14 (io), 30 I/O/MC1-15 (io), 31 GND (power), 32 I/O/MC1-7 (io), 33 I/O/GCK1/MC1-17 (io), 34 I/O/MC1-10 (io), 35 I/O/GCK2/MC3-2 (io), 36 I/O/MC3-5 (io), 37 I/O/MC3-6 (io), 38 I/O/MC1-13 (io), 39 I/O/MC1-16 (io), 40 GND (power), 41 VCC IO (power), 42 I/O/GCK3/MC3-8 (io), 43 I/O/MC3-1 (io), 44 I/O/MC3-9 (io), 45 I/O/MC3-3 (io), 46 VCC INT (power), 47 I/O/MC3-11 (io), 48 I/O/MC3-4 (io), 49 I/O/MC3-12 (io), 50 I/O/MC3-7 (io), 51 GND (power), 52 I/O/MC3-10 (io), 53 I/O/MC3-13 (io), 54 I/O/MC3-14 (io), 55 I/O/MC3-16 (io), 56 I/O/MC3-15 (io), 57 I/O/MC3-17 (io), 58 I/O/MC5-2 (io), 59 I/O/MC5-5 (io), 60 I/O/MC5-6 (io), 61 VCC IO (power), 62 I/O/MC5-8 (io), 63 I/O/MC5-9 (io), 64 I/O/MC5-11 (io), 65 I/O/MC5-1 (io), 66 I/O/MC5-3 (io), 67 I/O/MC5-4 (io), 68 I/O/MC5-12 (io), 69 I/O/MC3-14 (io), 70 GND (power), 71 TDI (in), 72 I/O/MC5-15 (io), 73 TMS (in), 74 I/O/MC5-7 (io), 75 TCK (in), 76 I/O/MC5-10 (io), 77 I/O/MC5-17 (io), 78 I/O/MC5-13 (io), 79 I/O/MC7-2 (io), 80 GND (power), 81 VCC IO (power), 82 I/O/MC7-5 (io), 83 I/O/MC5-16 (io), 84 I/O/MC7-3 (io), 85 I/O/MC7-4 (io), 86 I/O/MC7-6 (io), 87 I/O/MC7-7 (io), 88 I/O/MC7-8 (io), 89 I/O/MC7-10 (io), 90 I/O/MC7-9 (io), 91 I/O/MC7-13 (io), 92 I/O/MC7-11 (io), 93 I/O/MC7-16 (io), 94 VCC INT (power), 95 I/O/MC7-12 (io), 96 I/O/MC7-14 (io), 97 I/O/MC7-15 (io), 98 I/O/MC7-17 (io), 99 GND (power), 100 GND (power), 101 I/O/MC8-2 (io), 102 I/O/MC8-5 (io), 103 I/O/MC8-6 (io), 104 I/O/MC8-8 (io), 105 I/O/MC8-3 (io), 106 I/O/MC8-9 (io), 107 I/O/MC8-4 (io), 108 I/O/MC8-11 (io), 109 I/O/MC8-7 (io), 110 GND (power), 111 I/O/MC8-12 (io), 112 I/O/MC8-10 (io), 113 I/O/MC8-14 (io), 114 I/O/MC8-13 (io), 115 I/O/MC8-15 (io), 116 I/O/MC8-17 (io), 117 I/O/MC6-2 (io), 118 I/O/MC8-16 (io), 119 I/O/MC6-3 (io), 120 GND (power), 121 VCC IO (power), 122 I/O/MC6-5 (io), 123 I/O/MC6-4 (io), 124 I/O/MC6-6 (io), 125 I/O/MC6-7 (io), 126 I/O/MC6-8 (io), 127 GND (power), 128 I/O/MC6-10 (io), 129 I/O/MC6-9 (io), 130 I/O/MC6-13 (io), 131 I/O/MC6-16 (io), 132 I/O/MC4-1 (io), 133 I/O/MC6-11 (io), 134 I/O/MC6-12 (io), 135 I/O/MC6-14 (io), 136 TDO (out), 137 GND (power), 138 I/O/MC6-15 (io), 139 I/O/MC6-17 (io), 140 I/O/MC4-2 (io), 141 VCC IO (power), 142 I/O/MC4-5 (io), 143 I/O/MC4-6 (io), 144 I/O/MC4-8 (io), 145 I/O/MC4-9 (io), 146 I/O/MC4-11 (io), 147 I/O/MC4-3 (io), 148 I/O/MC4-12 (io), 149 I/O/MC4-4 (io), 150 I/O/MC4-7 (io), 151 I/O/MC4-10 (io), 152 I/O/MC4-14 (io), 153 I/O/MC4-13 (io), 154 I/O/MC4-15 (io), 155 I/O/MC4-16 (io), 156 I/O/MC4-17 (io), 157 VCC INT (power), 158 I/O/MC2-1 (io), 159 I/O/GSR/MC2-2 (io), 160 GND (power)

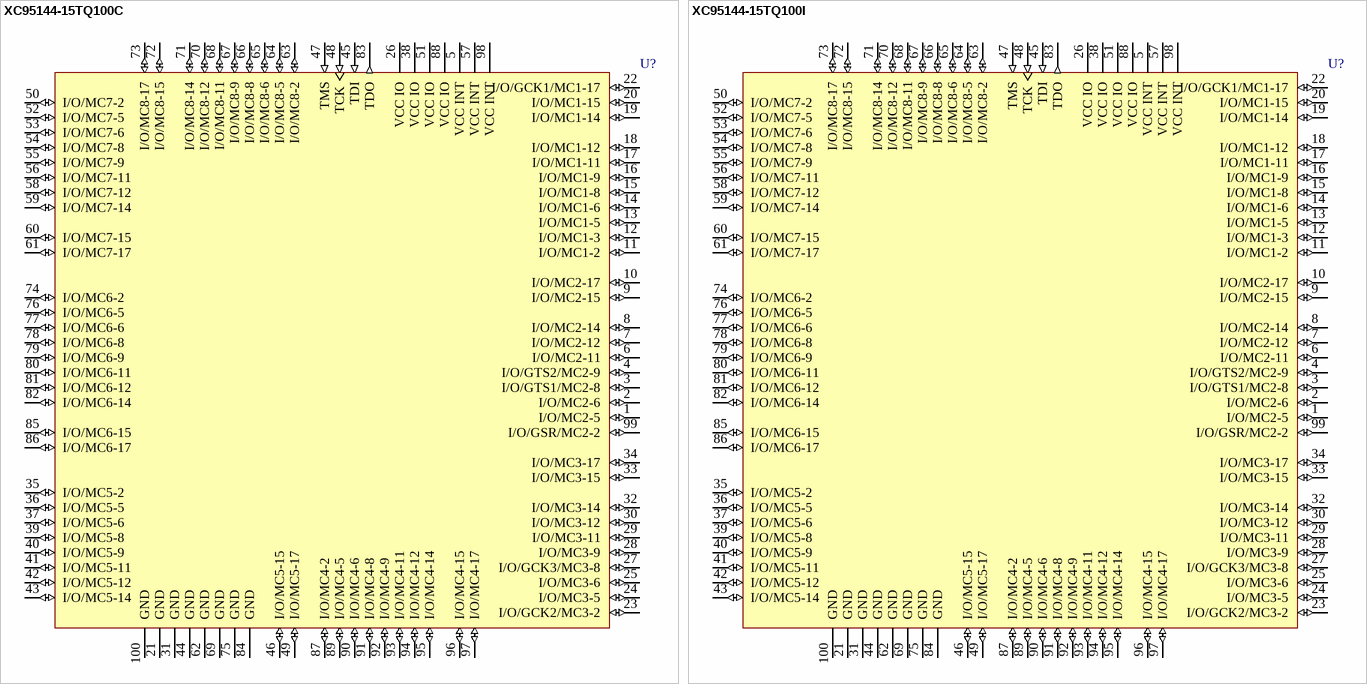
[diagram p22: symbols XC95144-15TQ100C to XC95144-15TQ100I]

## XC95144-15TQ100C
designator U?
XC9500, 5V CPLD with 144 Macrocells, 100-Pin TQFP, Commercial Grade; PackageDocument: ver1.1, Oct-2002; Published: 8-Jun-2000; LatestRevisionDate: 26-May-2004; LatestRevisionNote: SCH Symbol updated (GTS3 & GTS4 pin reference removed) to match Feb 2004 datasheet.; DatasheetDocument: ver5.3, Feb-2004; PackageReference: TQ100; Publisher: Altium Limited; Code_IPC: SQFP14X14-100
footprint TQ100 (100-Pin Thin Quad Flat Pack (TQ100))
3D model XC95144-TQ100 (100-Pin Thin Quad Flat Pack (TQ100))
signal-integrity model XC95144_TQ100 (XC9500)
pins: 1 I/O/MC2-5 (io), 2 I/O/MC2-6 (io), 3 I/O/GTS1/MC2-8 (io), 4 I/O/GTS2/MC2-9 (io), 5 VCC INT (power), 6 I/O/MC2-11 (io), 7 I/O/MC2-12 (io), 8 I/O/MC2-14 (io), 9 I/O/MC2-15 (io), 10 I/O/MC2-17 (io), 11 I/O/MC1-2 (io), 12 I/O/MC1-3 (io), 13 I/O/MC1-5 (io), 14 I/O/MC1-6 (io), 15 I/O/MC1-8 (io), 16 I/O/MC1-9 (io), 17 I/O/MC1-11 (io), 18 I/O/MC1-12 (io), 19 I/O/MC1-14 (io), 20 I/O/MC1-15 (io), 21 GND (power), 22 I/O/GCK1/MC1-17 (io), 23 I/O/GCK2/MC3-2 (io), 24 I/O/MC3-5 (io), 25 I/O/MC3-6 (io), 26 VCC IO (power), 27 I/O/GCK3/MC3-8 (io), 28 I/O/MC3-9 (io), 29 I/O/MC3-11 (io), 30 I/O/MC3-12 (io), 31 GND (power), 32 I/O/MC3-14 (io), 33 I/O/MC3-15 (io), 34 I/O/MC3-17 (io), 35 I/O/MC5-2 (io), 36 I/O/MC5-5 (io), 37 I/O/MC5-6 (io), 38 VCC IO (power), 39 I/O/MC5-8 (io), 40 I/O/MC5-9 (io), 41 I/O/MC5-11 (io), 42 I/O/MC5-12 (io), 43 I/O/MC5-14 (io), 44 GND (power), 45 TDI (in), 46 I/O/MC5-15 (io), 47 TMS (in), 48 TCK (in), 49 I/O/MC5-17 (io), 50 I/O/MC7-2 (io), 51 VCC IO (power), 52 I/O/MC7-5 (io), 53 I/O/MC7-6 (io), 54 I/O/MC7-8 (io), 55 I/O/MC7-9 (io), 56 I/O/MC7-11 (io), 57 VCC INT (power), 58 I/O/MC7-12 (io), 59 I/O/MC7-14 (io), 60 I/O/MC7-15 (io), 61 I/O/MC7-17 (io), 62 GND (power), 63 I/O/MC8-2 (io), 64 I/O/MC8-5 (io), 65 I/O/MC8-6 (io), 66 I/O/MC8-8 (io), 67 I/O/MC8-9 (io), 68 I/O/MC8-11 (io), 69 GND (power), 70 I/O/MC8-12 (io), 71 I/O/MC8-14 (io), 72 I/O/MC8-15 (io), 73 I/O/MC8-17 (io), 74 I/O/MC6-2 (io), 75 GND (power), 76 I/O/MC6-5 (io), 77 I/O/MC6-6 (io), 78 I/O/MC6-8 (io), 79 I/O/MC6-9 (io), 80 I/O/MC6-11 (io), 81 I/O/MC6-12 (io), 82 I/O/MC6-14 (io), 83 TDO (out), 84 GND (power), 85 I/O/MC6-15 (io), 86 I/O/MC6-17 (io), 87 I/O/MC4-2 (io), 88 VCC IO (power), 89 I/O/MC4-5 (io), 90 I/O/MC4-6 (io), 91 I/O/MC4-8 (io), 92 I/O/MC4-9 (io), 93 I/O/MC4-11 (io), 94 I/O/MC4-12 (io), 95 I/O/MC4-14 (io), 96 I/O/MC4-15 (io), 97 I/O/MC4-17 (io), 98 VCC INT (power), 99 I/O/GSR/MC2-2 (io), 100 GND (power)

## XC95144-15TQ100I
designator U?
XC9500, 5V CPLD with 144 Macrocells, 100-Pin TQFP, Industrial Grade; PackageDocument: ver1.1, Oct-2002; Published: 8-Jun-2000; LatestRevisionDate: 26-May-2004; LatestRevisionNote: SCH Symbol updated (GTS3 & GTS4 pin reference removed) to match Feb 2004 datasheet.; DatasheetDocument: ver5.3, Feb-2004; PackageReference: TQ100; Publisher: Altium Limited; Code_IPC: SQFP14X14-100
footprint TQ100 (100-Pin Thin Quad Flat Pack (TQ100))
3D model XC95144-TQ100 (100-Pin Thin Quad Flat Pack (TQ100))
signal-integrity model XC95144_TQ100 (XC9500)
pins: 1 I/O/MC2-5 (io), 2 I/O/MC2-6 (io), 3 I/O/GTS1/MC2-8 (io), 4 I/O/GTS2/MC2-9 (io), 5 VCC INT (power), 6 I/O/MC2-11 (io), 7 I/O/MC2-12 (io), 8 I/O/MC2-14 (io), 9 I/O/MC2-15 (io), 10 I/O/MC2-17 (io), 11 I/O/MC1-2 (io), 12 I/O/MC1-3 (io), 13 I/O/MC1-5 (io), 14 I/O/MC1-6 (io), 15 I/O/MC1-8 (io), 16 I/O/MC1-9 (io), 17 I/O/MC1-11 (io), 18 I/O/MC1-12 (io), 19 I/O/MC1-14 (io), 20 I/O/MC1-15 (io), 21 GND (power), 22 I/O/GCK1/MC1-17 (io), 23 I/O/GCK2/MC3-2 (io), 24 I/O/MC3-5 (io), 25 I/O/MC3-6 (io), 26 VCC IO (power), 27 I/O/GCK3/MC3-8 (io), 28 I/O/MC3-9 (io), 29 I/O/MC3-11 (io), 30 I/O/MC3-12 (io), 31 GND (power), 32 I/O/MC3-14 (io), 33 I/O/MC3-15 (io), 34 I/O/MC3-17 (io), 35 I/O/MC5-2 (io), 36 I/O/MC5-5 (io), 37 I/O/MC5-6 (io), 38 VCC IO (power), 39 I/O/MC5-8 (io), 40 I/O/MC5-9 (io), 41 I/O/MC5-11 (io), 42 I/O/MC5-12 (io), 43 I/O/MC5-14 (io), 44 GND (power), 45 TDI (in), 46 I/O/MC5-15 (io), 47 TMS (in), 48 TCK (in), 49 I/O/MC5-17 (io), 50 I/O/MC7-2 (io), 51 VCC IO (power), 52 I/O/MC7-5 (io), 53 I/O/MC7-6 (io), 54 I/O/MC7-8 (io), 55 I/O/MC7-9 (io), 56 I/O/MC7-11 (io), 57 VCC INT (power), 58 I/O/MC7-12 (io), 59 I/O/MC7-14 (io), 60 I/O/MC7-15 (io), 61 I/O/MC7-17 (io), 62 GND (power), 63 I/O/MC8-2 (io), 64 I/O/MC8-5 (io), 65 I/O/MC8-6 (io), 66 I/O/MC8-8 (io), 67 I/O/MC8-9 (io), 68 I/O/MC8-11 (io), 69 GND (power), 70 I/O/MC8-12 (io), 71 I/O/MC8-14 (io), 72 I/O/MC8-15 (io), 73 I/O/MC8-17 (io), 74 I/O/MC6-2 (io), 75 GND (power), 76 I/O/MC6-5 (io), 77 I/O/MC6-6 (io), 78 I/O/MC6-8 (io), 79 I/O/MC6-9 (io), 80 I/O/MC6-11 (io), 81 I/O/MC6-12 (io), 82 I/O/MC6-14 (io), 83 TDO (out), 84 GND (power), 85 I/O/MC6-15 (io), 86 I/O/MC6-17 (io), 87 I/O/MC4-2 (io), 88 VCC IO (power), 89 I/O/MC4-5 (io), 90 I/O/MC4-6 (io), 91 I/O/MC4-8 (io), 92 I/O/MC4-9 (io), 93 I/O/MC4-11 (io), 94 I/O/MC4-12 (io), 95 I/O/MC4-14 (io), 96 I/O/MC4-15 (io), 97 I/O/MC4-17 (io), 98 VCC INT (power), 99 I/O/GSR/MC2-2 (io), 100 GND (power)

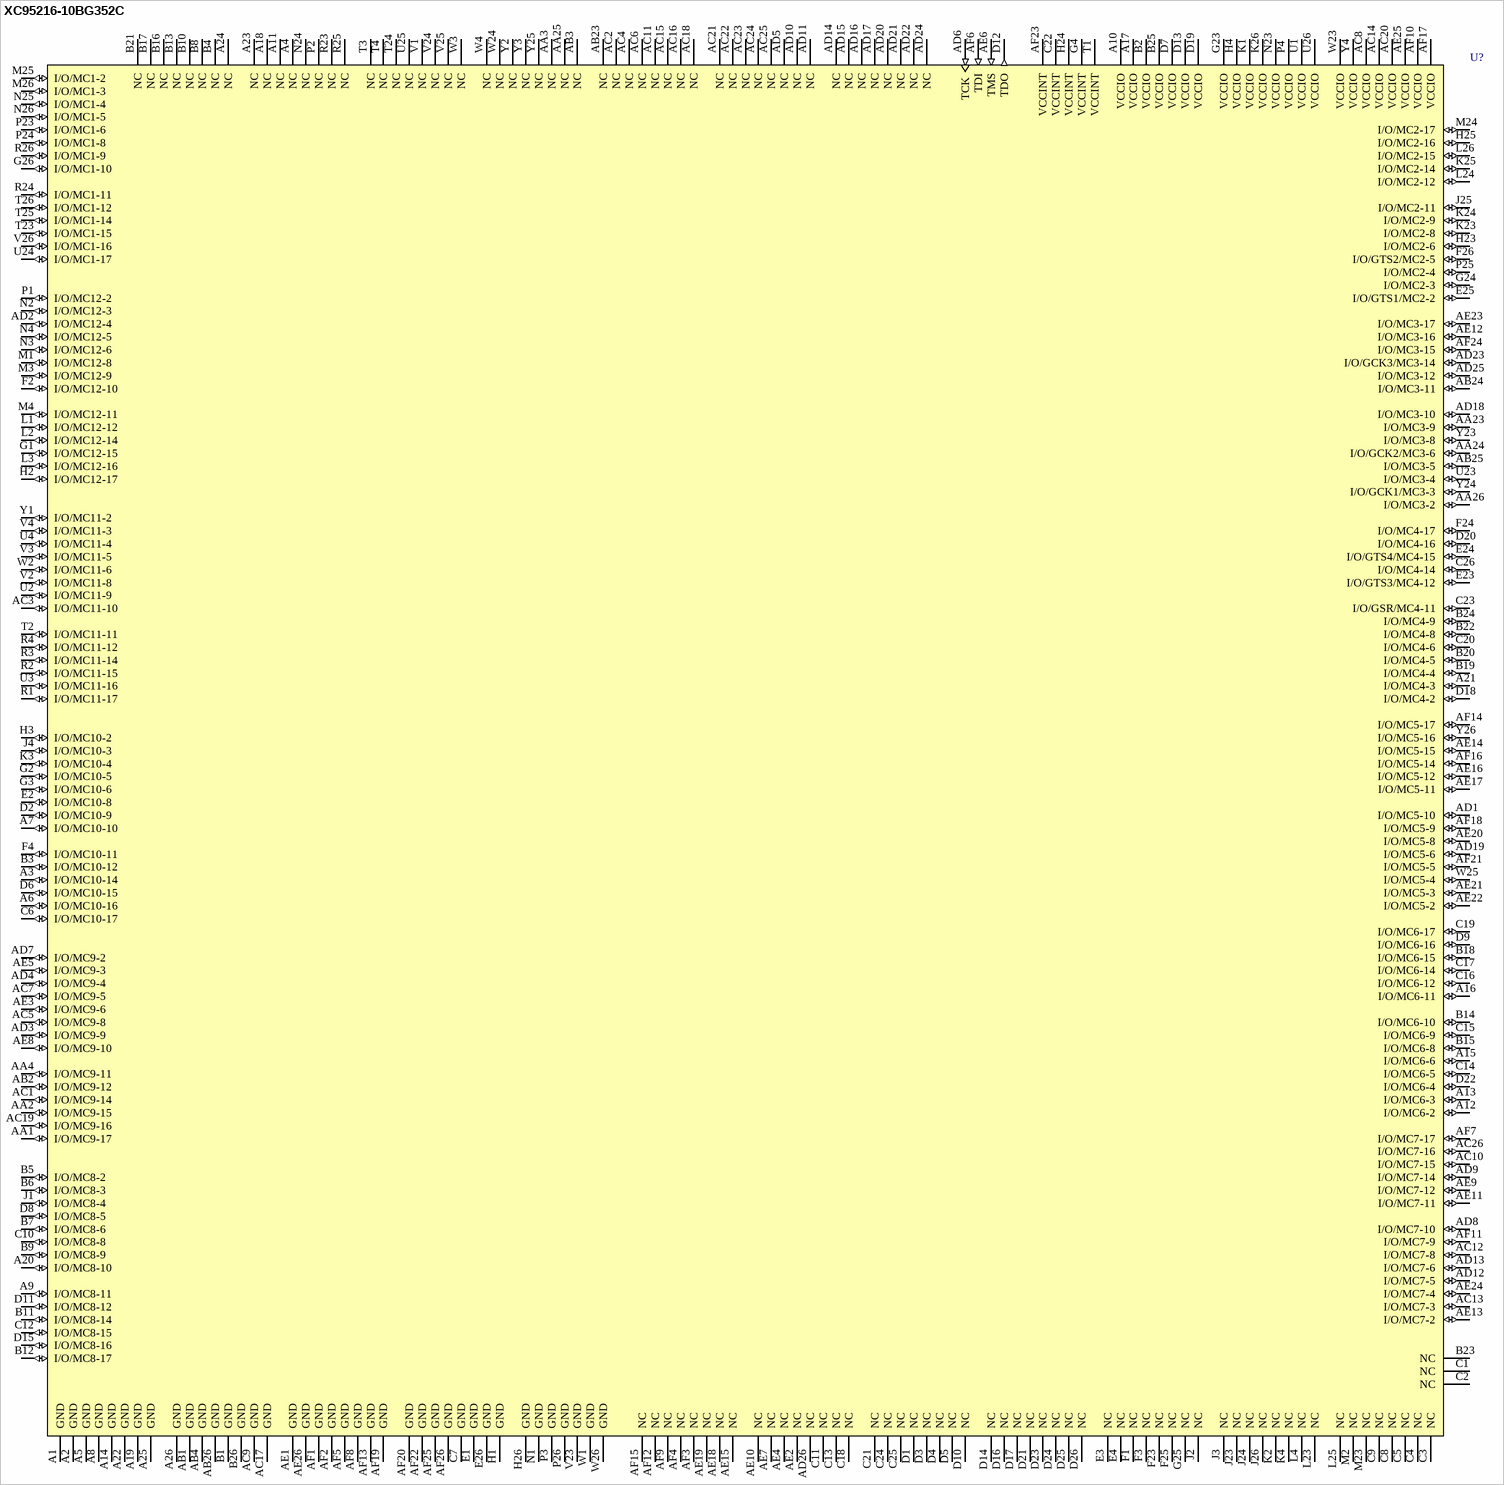
[diagram p23: symbol XC95216-10BG352C]